# Altium schematic symbol library mcu.SchLib: 76 symbols (part 1 of 2)
Pins are listed as number, name and electrical type; pins without a type are passive.

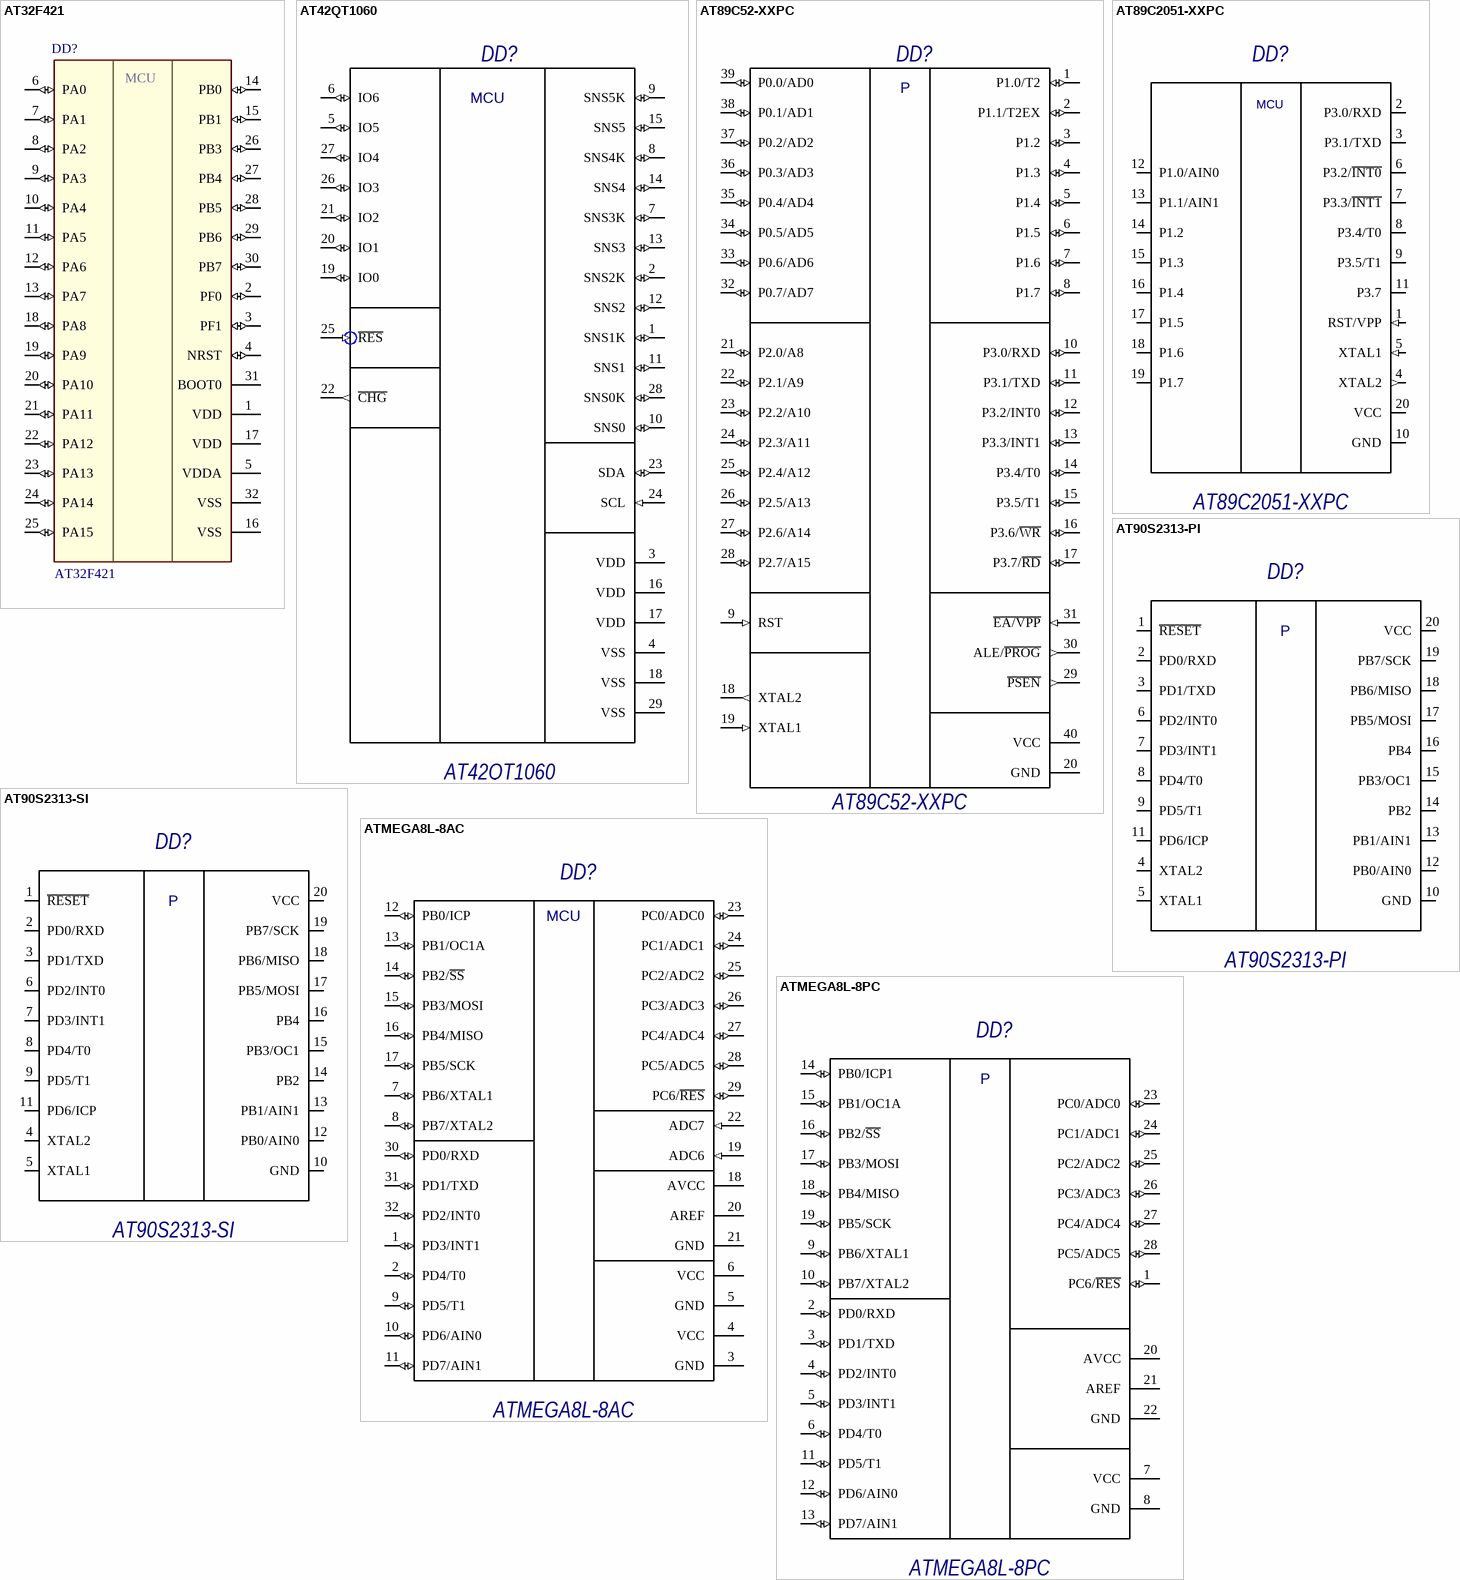
[diagram p0: symbols AT32F421 to ATMEGA8L-8PC]

## AT32F421
designator DD?
ARM® -based 32-bit Cortex® -M4 MCU with 16 KB to 64 KB Flash, / sLib, 10 timers, 1 ADC, 1 COMP, 7 communication interfaces
footprint LQFP-32
pins: 1 VDD (power) "Digital power supply", 2 PF0 (io) "I2C1_SCL, OSC_OUT", 3 PF1 (io) "I2C1_SDA, OSC_IN", 4 NRST (io) "Device reset input / internal reset output (active low)", 5 VDDA (power) "Analog power supply", 6 PA0 (io) "USART2_CTS,  USART4_TX  RTC_ TAMP2,  WKUP1, ADC_IN0,", 7 PA1 (io) "USART2_RTS,  TIM15_CH1N,  USART4_RX, EVENTOUT  ADC_IN1", 8 PA2 (io) "USART2_TX, TIM15_CH1 ADC_IN2, WKUP4", 9 PA3 (io) "USART2_RX, TIM15_CH2 ADC_IN3", 10 PA4 (io) "SPI1_NSS, TIM14_CH1,  USART2_CK,  USB_NOE(3)  ADC_IN4", 11 PA5 (io) "SPI1_SCK ADC_IN5", 12 PA6 (io) "SPI1_MISO, TIM3_CH1,  TIM1_BKIN,  TIM16_CH1, EVENTOUT,  USART3_CTS  ADC_IN6", 13 PA7 (io) "SPI1_MOSI, TIM3_CH2,  TIM14_CH1,  TIM1_CH1N, TIM17_CH1,  EVENTOUT  ADC_IN7", 14 PB0 (io) "TIM3_CH3, TIM1_CH2N,  EVENTOUT,  USART3_CK  ADC_IN8", 15 PB1 (io) "TIM3_CH4,  USART3_RTS,  TIM14_CH1, TIM1_CH3N  ADC_IN9", 16 VSS (power) "Graound", 17 VDD (power) "Digital power supply", 18 PA8 (io) "USART1_CK, TIM1_CH1,  EVENTOUT, MCO", 19 PA9 (io) "USART1_TX, TIM1_CH2,  TIM15_BKIN,  I2C1_SCL", 20 PA10 (io) "USART1_RX, TIM1_CH3,  TIM17_BKIN,  I2C1_SDA", 21 PA11 (io) "USART1_CTS,  TIM1_CH4, EVENTOUT USB_DM", 22 PA12 (io) "USART1_RTS,  TIM1_ETR, EVENTOUT USB_DP", 23 PA13 (io) "IR_OUT, SWDIO,  USB_NOE", 24 PA14 (io) "USART2_TX, SWCLK", 25 PA15 (io) "SPI1_NSS, USART2_RX,  USART4_RTS,  EVENTOUT", 26 PB3 (io) "SPI1_SCK, EVENTOUT", 27 PB4 (io) "SPI1_MISO, TIM17_BKIN,  TIM3_CH1, EVENTOUT", 28 PB5 (io) "SPI1_MOSI, I2C1_SMBA,  TIM16_BKIN,  TIM3_CH2  WKUP6", 29 PB6 (io) "I2C1_SCL, USART1_TX,  TIM16_CH1N", 30 PB7 (io) "I2C1_SDA, USART1_RX,  USART4_CTS,  TIM17_C", 31 BOOT0 "Boot memory selection", 32 VSS (power) "Ground"
text: MCU

## AT42QT1060
designator DD?
Value: *
footprint MLF-28
pins: 1 SNS1K (io), 2 SNS2K (io), 3 VDD (power), 4 VSS (power), 5 IO5 (io), 6 IO6 (io), 7 SNS3K (io), 8 SNS4K (io), 9 SNS5K (io), 10 SNS0 (io), 11 SNS1 (io), 12 SNS2 (io), 13 SNS3 (io), 14 SNS4 (io), 15 SNS5 (io), 16 VDD (power), 17 VDD (power), 18 VSS (power), 19 IO0 (io), 20 IO1 (io), 21 IO2 (io), 22 ~{CHG} (out), 23 SDA (io), 24 SCL (in), 25 ~{RES} (in), 26 IO3 (io), 27 IO4 (io), 28 SNS0K (io), 29 VSS (power)
text: MCU

## AT89C52-XXPC
designator DD?
Value: *
footprint DIP40
pins: 1 P1.0/T2 (io), 2 P1.1/T2EX (io), 3 P1.2 (io), 4 P1.3 (io), 5 P1.4 (io), 6 P1.5 (io), 7 P1.6 (io), 8 P1.7 (io), 9 RST (in), 10 P3.0/RXD (io), 11 P3.1/TXD (io), 12 P3.2/INT0 (io), 13 P3.3/INT1 (io), 14 P3.4/T0 (io), 15 P3.5/T1 (io), 16 P3.6/~{WR} (io), 17 P3.7/~{RD} (io), 18 XTAL2 (out), 19 XTAL1 (in), 20 GND (power), 21 P2.0/A8 (io), 22 P2.1/A9 (io), 23 P2.2/A10 (io), 24 P2.3/A11 (io), 25 P2.4/A12 (io), 26 P2.5/A13 (io), 27 P2.6/A14 (io), 28 P2.7/A15 (io), 29 ~{PSEN} (out), 30 ALE/~{PROG} (out), 31 ~{EA/VPP} (in), 32 P0.7/AD7 (io), 33 P0.6/AD6 (io), 34 P0.5/AD5 (io), 35 P0.4/AD4 (io), 36 P0.3/AD3 (io), 37 P0.2/AD2 (io), 38 P0.1/AD1 (io), 39 P0.0/AD0 (io), 40 VCC (power)
text: P

## AT89C2051-XXPC
designator DD?
Value: *
footprint DIP20
pins: 1 RST/VPP (in), 2 P3.0/RXD (io), 3 P3.1/TXD (io), 4 XTAL2 (out), 5 XTAL1 (in), 6 P3.2/~{INT0} (io), 7 P3.3/~{INT1} (io), 8 P3.4/T0 (io), 9 P3.5/T1 (io), 10 GND (power), 11 P3.7 (io), 12 P1.0/AIN0 (io), 13 P1.1/AIN1 (io), 14 P1.2 (io), 15 P1.3 (io), 16 P1.4 (io), 17 P1.5 (io), 18 P1.6 (io), 19 P1.7 (io), 20 VCC (power)
text: MCU

## AT90S2313-PI
designator DD?
Value: *
footprint DIP20
pins: 1 ~{RESET}, 2 PD0/RXD, 3 PD1/TXD, 4 XTAL2, 5 XTAL1, 6 PD2/INT0, 7 PD3/INT1, 8 PD4/T0, 9 PD5/T1, 10 GND, 11 PD6/ICP, 12 PB0/AIN0, 13 PB1/AIN1, 14 PB2, 15 PB3/OC1, 16 PB4, 17 PB5/MOSI, 18 PB6/MISO, 19 PB7/SCK, 20 VCC
text: P

## AT90S2313-SI
designator DD?
Value: *
footprint SOIC20
pins: 1 ~{RESET}, 2 PD0/RXD, 3 PD1/TXD, 4 XTAL2, 5 XTAL1, 6 PD2/INT0, 7 PD3/INT1, 8 PD4/T0, 9 PD5/T1, 10 GND, 11 PD6/ICP, 12 PB0/AIN0, 13 PB1/AIN1, 14 PB2, 15 PB3/OC1, 16 PB4, 17 PB5/MOSI, 18 PB6/MISO, 19 PB7/SCK, 20 VCC
text: P

## ATMEGA8L-8AC
designator DD?
Value: *
footprint TQFP-32
pins: 1 PD3/INT1 (io), 2 PD4/T0 (io), 3 GND (power), 4 VCC (power), 5 GND (power), 6 VCC (power), 7 PB6/XTAL1 (io), 8 PB7/XTAL2 (io), 9 PD5/T1 (io), 10 PD6/AIN0 (io), 11 PD7/AIN1 (io), 12 PB0/ICP (io), 13 PB1/OC1A (io), 14 PB2/~{SS} (io), 15 PB3/MOSI (io), 16 PB4/MISO (io), 17 PB5/SCK (io), 18 AVCC (power), 19 ADC6 (in), 20 AREF (power), 21 GND (power), 22 ADC7 (in), 23 PC0/ADC0 (io), 24 PC1/ADC1 (io), 25 PC2/ADC2 (io), 26 PC3/ADC3 (io), 27 PC4/ADC4 (io), 28 PC5/ADC5 (io), 29 PC6/~{RES} (io), 30 PD0/RXD (io), 31 PD1/TXD (io), 32 PD2/INT0 (io)
text: MCU

## ATMEGA8L-8PC
designator DD?
Value: *
footprint DIP28
pins: 1 PC6/~{RES} (io), 2 PD0/RXD (io), 3 PD1/TXD (io), 4 PD2/INT0 (io), 5 PD3/INT1 (io), 6 PD4/T0 (io), 7 VCC (power), 8 GND (power), 9 PB6/XTAL1 (io), 10 PB7/XTAL2 (io), 11 PD5/T1 (io), 12 PD6/AIN0 (io), 13 PD7/AIN1 (io), 14 PB0/ICP1 (io), 15 PB1/OC1A (io), 16 PB2/~{SS} (io), 17 PB3/MOSI (io), 18 PB4/MISO (io), 19 PB5/SCK (io), 20 AVCC (power), 21 AREF (power), 22 GND (power), 23 PC0/ADC0 (io), 24 PC1/ADC1 (io), 25 PC2/ADC2 (io), 26 PC3/ADC3 (io), 27 PC4/ADC4 (io), 28 PC5/ADC5 (io)
text: P

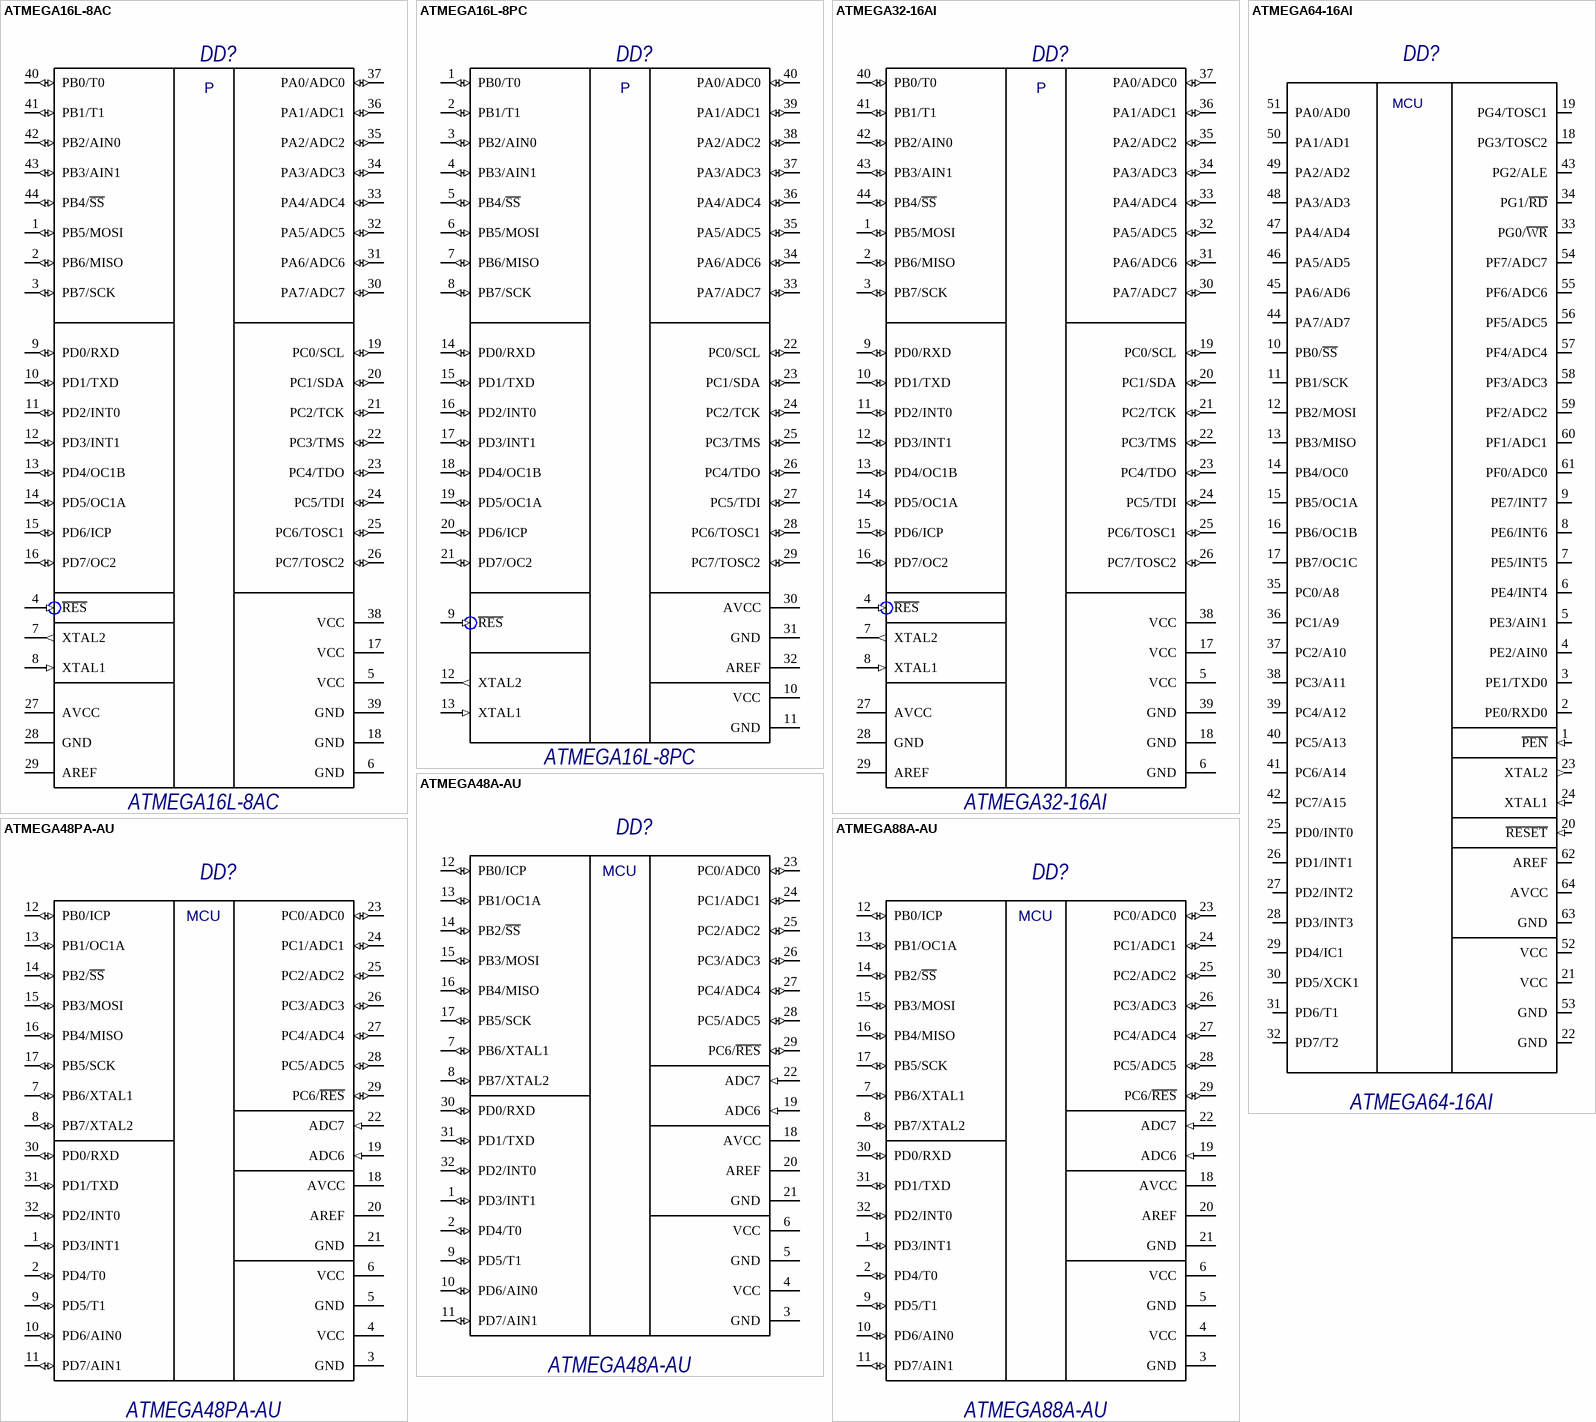
[diagram p1: symbols ATMEGA16L-8AC to ATMEGA88A-AU]

## ATMEGA16L-8AC
designator DD?
Value: *
footprint TQFP-44
pins: 1 PB5/MOSI (io), 2 PB6/MISO (io), 3 PB7/SCK (io), 4 ~{RES} (in), 5 VCC (power), 6 GND (power), 7 XTAL2 (out), 8 XTAL1 (in), 9 PD0/RXD (io), 10 PD1/TXD (io), 11 PD2/INT0 (io), 12 PD3/INT1 (io), 13 PD4/OC1B (io), 14 PD5/OC1A (io), 15 PD6/ICP (io), 16 PD7/OC2 (io), 17 VCC (power), 18 GND (power), 19 PC0/SCL (io), 20 PC1/SDA (io), 21 PC2/TCK (io), 22 PC3/TMS (io), 23 PC4/TDO (io), 24 PC5/TDI (io), 25 PC6/TOSC1 (io), 26 PC7/TOSC2 (io), 27 AVCC (power), 28 GND (power), 29 AREF (power), 30 PA7/ADC7 (io), 31 PA6/ADC6 (io), 32 PA5/ADC5 (io), 33 PA4/ADC4 (io), 34 PA3/ADC3 (io), 35 PA2/ADC2 (io), 36 PA1/ADC1 (io), 37 PA0/ADC0 (io), 38 VCC (power), 39 GND (power), 40 PB0/T0 (io), 41 PB1/T1 (io), 42 PB2/AIN0 (io), 43 PB3/AIN1 (io), 44 PB4/~{SS} (io)
text: P

## ATMEGA16L-8PC
designator DD?
Value: *
footprint DIP40
pins: 1 PB0/T0 (io), 2 PB1/T1 (io), 3 PB2/AIN0 (io), 4 PB3/AIN1 (io), 5 PB4/~{SS} (io), 6 PB5/MOSI (io), 7 PB6/MISO (io), 8 PB7/SCK (io), 9 ~{RES} (in), 10 VCC (power), 11 GND (power), 12 XTAL2 (out), 13 XTAL1 (in), 14 PD0/RXD (io), 15 PD1/TXD (io), 16 PD2/INT0 (io), 17 PD3/INT1 (io), 18 PD4/OC1B (io), 19 PD5/OC1A (io), 20 PD6/ICP (io), 21 PD7/OC2 (io), 22 PC0/SCL (io), 23 PC1/SDA (io), 24 PC2/TCK (io), 25 PC3/TMS (io), 26 PC4/TDO (io), 27 PC5/TDI (io), 28 PC6/TOSC1 (io), 29 PC7/TOSC2 (io), 30 AVCC (power), 31 GND (power), 32 AREF (power), 33 PA7/ADC7 (io), 34 PA6/ADC6 (io), 35 PA5/ADC5 (io), 36 PA4/ADC4 (io), 37 PA3/ADC3 (io), 38 PA2/ADC2 (io), 39 PA1/ADC1 (io), 40 PA0/ADC0 (io)
text: P

## ATMEGA32-16AI
designator DD?
Value: *
footprint TQFP-44
pins: 1 PB5/MOSI (io), 2 PB6/MISO (io), 3 PB7/SCK (io), 4 ~{RES} (in), 5 VCC (power), 6 GND (power), 7 XTAL2 (out), 8 XTAL1 (in), 9 PD0/RXD (io), 10 PD1/TXD (io), 11 PD2/INT0 (io), 12 PD3/INT1 (io), 13 PD4/OC1B (io), 14 PD5/OC1A (io), 15 PD6/ICP (io), 16 PD7/OC2 (io), 17 VCC (power), 18 GND (power), 19 PC0/SCL (io), 20 PC1/SDA (io), 21 PC2/TCK (io), 22 PC3/TMS (io), 23 PC4/TDO (io), 24 PC5/TDI (io), 25 PC6/TOSC1 (io), 26 PC7/TOSC2 (io), 27 AVCC (power), 28 GND (power), 29 AREF (power), 30 PA7/ADC7 (io), 31 PA6/ADC6 (io), 32 PA5/ADC5 (io), 33 PA4/ADC4 (io), 34 PA3/ADC3 (io), 35 PA2/ADC2 (io), 36 PA1/ADC1 (io), 37 PA0/ADC0 (io), 38 VCC (power), 39 GND (power), 40 PB0/T0 (io), 41 PB1/T1 (io), 42 PB2/AIN0 (io), 43 PB3/AIN1 (io), 44 PB4/~{SS} (io)
text: P

## ATMEGA48A-AU
designator DD?
Value: *
footprint TQFP-32
pins: 1 PD3/INT1 (io), 2 PD4/T0 (io), 3 GND (power), 4 VCC (power), 5 GND (power), 6 VCC (power), 7 PB6/XTAL1 (io), 8 PB7/XTAL2 (io), 9 PD5/T1 (io), 10 PD6/AIN0 (io), 11 PD7/AIN1 (io), 12 PB0/ICP (io), 13 PB1/OC1A (io), 14 PB2/~{SS} (io), 15 PB3/MOSI (io), 16 PB4/MISO (io), 17 PB5/SCK (io), 18 AVCC (power), 19 ADC6 (in), 20 AREF (power), 21 GND (power), 22 ADC7 (in), 23 PC0/ADC0 (io), 24 PC1/ADC1 (io), 25 PC2/ADC2 (io), 26 PC3/ADC3 (io), 27 PC4/ADC4 (io), 28 PC5/ADC5 (io), 29 PC6/~{RES} (io), 30 PD0/RXD (io), 31 PD1/TXD (io), 32 PD2/INT0 (io)
text: MCU

## ATMEGA48PA-AU
designator DD?
Value: *
footprint TQFP-32
pins: 1 PD3/INT1 (io), 2 PD4/T0 (io), 3 GND (power), 4 VCC (power), 5 GND (power), 6 VCC (power), 7 PB6/XTAL1 (io), 8 PB7/XTAL2 (io), 9 PD5/T1 (io), 10 PD6/AIN0 (io), 11 PD7/AIN1 (io), 12 PB0/ICP (io), 13 PB1/OC1A (io), 14 PB2/~{SS} (io), 15 PB3/MOSI (io), 16 PB4/MISO (io), 17 PB5/SCK (io), 18 AVCC (power), 19 ADC6 (in), 20 AREF (power), 21 GND (power), 22 ADC7 (in), 23 PC0/ADC0 (io), 24 PC1/ADC1 (io), 25 PC2/ADC2 (io), 26 PC3/ADC3 (io), 27 PC4/ADC4 (io), 28 PC5/ADC5 (io), 29 PC6/~{RES} (io), 30 PD0/RXD (io), 31 PD1/TXD (io), 32 PD2/INT0 (io)
text: MCU

## ATMEGA64-16AI
designator DD?
Value: *
footprint TQFP-64
pins: 1 ~{PEN} (in), 2 PE0/RXD0 (io), 3 PE1/TXD0 (io), 4 PE2/AIN0 (io), 5 PE3/AIN1 (io), 6 PE4/INT4 (io), 7 PE5/INT5 (io), 8 PE6/INT6 (io), 9 PE7/INT7 (io), 10 PB0/~{SS} (io), 11 PB1/SCK (io), 12 PB2/MOSI (io), 13 PB3/MISO (io), 14 PB4/OC0 (io), 15 PB5/OC1A (io), 16 PB6/OC1B (io), 17 PB7/OC1C (io), 18 PG3/TOSC2 (io), 19 PG4/TOSC1 (io), 20 ~{RESET} (in), 21 VCC (power), 22 GND (power), 23 XTAL2 (out), 24 XTAL1 (in), 25 PD0/INT0 (io), 26 PD1/INT1 (io), 27 PD2/INT2 (io), 28 PD3/INT3 (io), 29 PD4/IC1 (io), 30 PD5/XCK1 (io), 31 PD6/T1 (io), 32 PD7/T2 (io), 33 PG0/~{WR} (io), 34 PG1/~{RD} (io), 35 PC0/A8 (io), 36 PC1/A9 (io), 37 PC2/A10 (io), 38 PC3/A11 (io), 39 PC4/A12 (io), 40 PC5/A13 (io), 41 PC6/A14 (io), 42 PC7/A15 (io), 43 PG2/ALE (io), 44 PA7/AD7 (io), 45 PA6/AD6 (io), 46 PA5/AD5 (io), 47 PA4/AD4 (io), 48 PA3/AD3 (io), 49 PA2/AD2 (io), 50 PA1/AD1 (io), 51 PA0/AD0 (io), 52 VCC (power), 53 GND (power), 54 PF7/ADC7 (io), 55 PF6/ADC6 (io), 56 PF5/ADC5 (io), 57 PF4/ADC4 (io), 58 PF3/ADC3 (io), 59 PF2/ADC2 (io), 60 PF1/ADC1 (io), 61 PF0/ADC0 (io), 62 AREF (power), 63 GND (power), 64 AVCC (power)
text: MCU

## ATMEGA88A-AU
designator DD?
Value: *
footprint TQFP-32
pins: 1 PD3/INT1 (io), 2 PD4/T0 (io), 3 GND (power), 4 VCC (power), 5 GND (power), 6 VCC (power), 7 PB6/XTAL1 (io), 8 PB7/XTAL2 (io), 9 PD5/T1 (io), 10 PD6/AIN0 (io), 11 PD7/AIN1 (io), 12 PB0/ICP (io), 13 PB1/OC1A (io), 14 PB2/~{SS} (io), 15 PB3/MOSI (io), 16 PB4/MISO (io), 17 PB5/SCK (io), 18 AVCC (power), 19 ADC6 (in), 20 AREF (power), 21 GND (power), 22 ADC7 (in), 23 PC0/ADC0 (io), 24 PC1/ADC1 (io), 25 PC2/ADC2 (io), 26 PC3/ADC3 (io), 27 PC4/ADC4 (io), 28 PC5/ADC5 (io), 29 PC6/~{RES} (io), 30 PD0/RXD (io), 31 PD1/TXD (io), 32 PD2/INT0 (io)
text: MCU

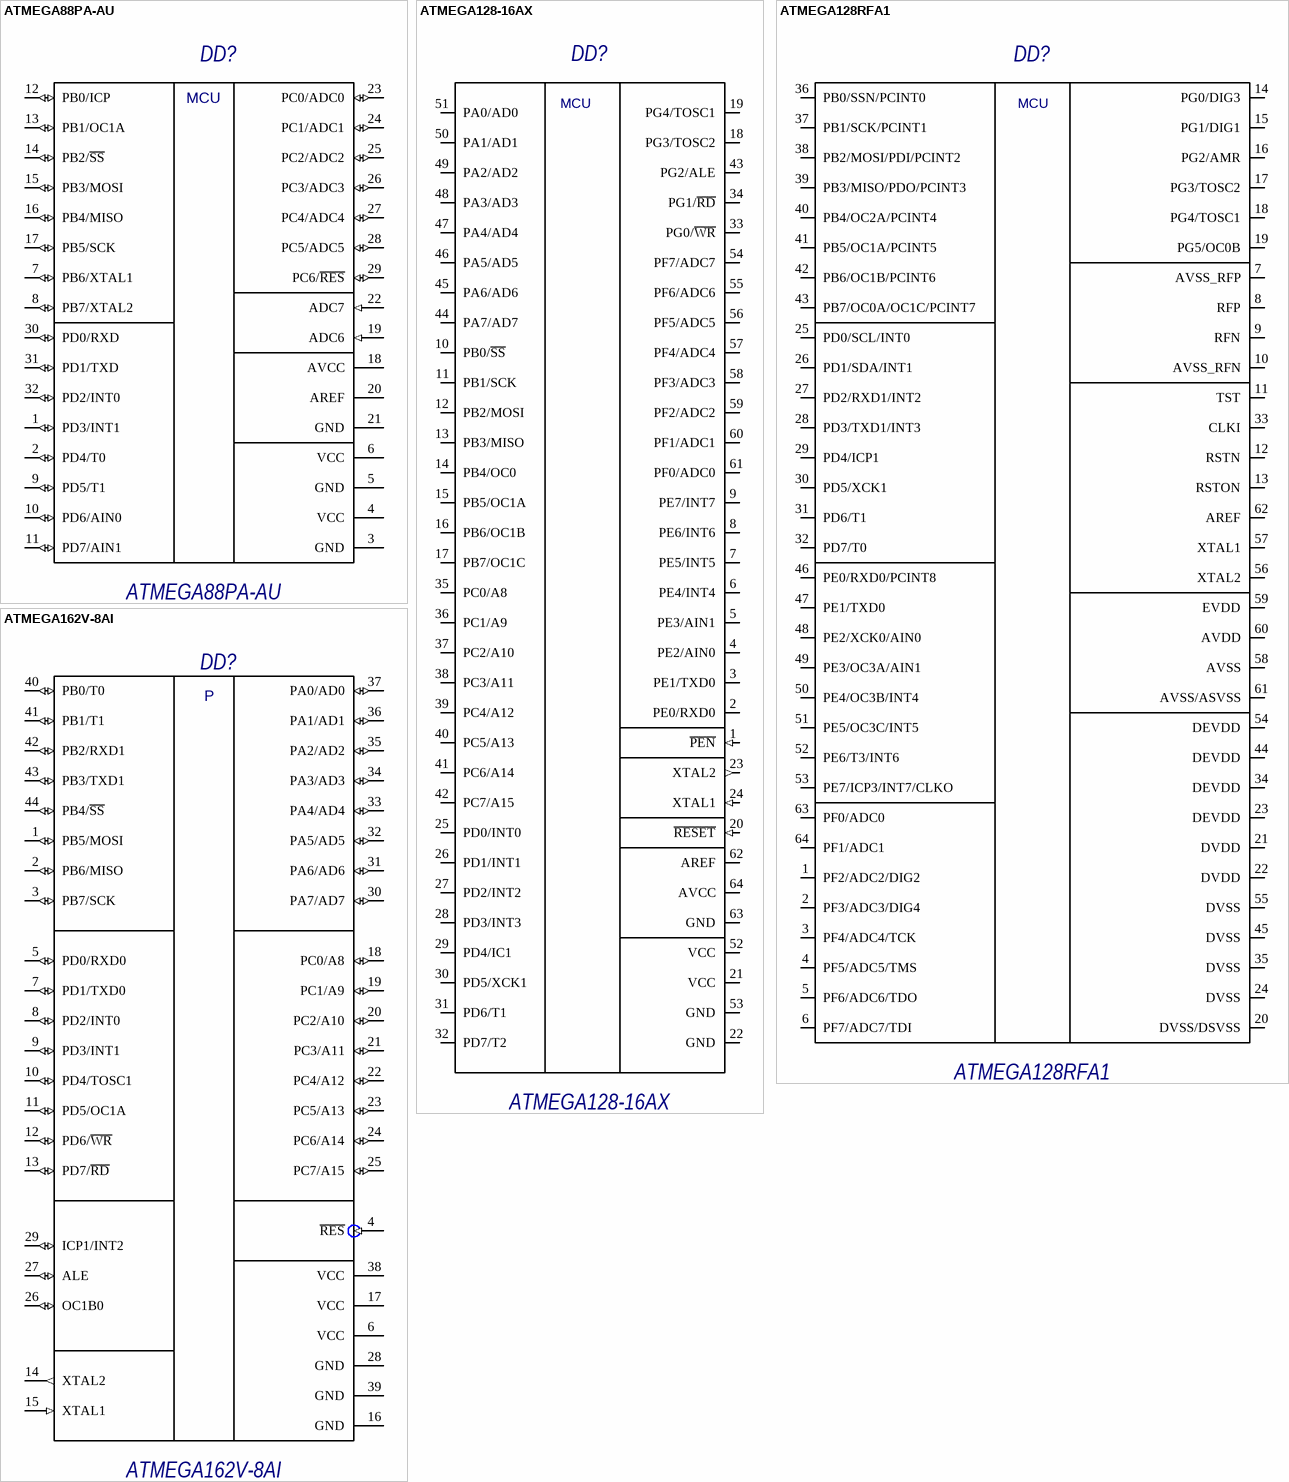
[diagram p2: symbols ATMEGA88PA-AU to ATMEGA162V-8AI]

## ATMEGA88PA-AU
designator DD?
Value: *
footprint TQFP-32
pins: 1 PD3/INT1 (io), 2 PD4/T0 (io), 3 GND (power), 4 VCC (power), 5 GND (power), 6 VCC (power), 7 PB6/XTAL1 (io), 8 PB7/XTAL2 (io), 9 PD5/T1 (io), 10 PD6/AIN0 (io), 11 PD7/AIN1 (io), 12 PB0/ICP (io), 13 PB1/OC1A (io), 14 PB2/~{SS} (io), 15 PB3/MOSI (io), 16 PB4/MISO (io), 17 PB5/SCK (io), 18 AVCC (power), 19 ADC6 (in), 20 AREF (power), 21 GND (power), 22 ADC7 (in), 23 PC0/ADC0 (io), 24 PC1/ADC1 (io), 25 PC2/ADC2 (io), 26 PC3/ADC3 (io), 27 PC4/ADC4 (io), 28 PC5/ADC5 (io), 29 PC6/~{RES} (io), 30 PD0/RXD (io), 31 PD1/TXD (io), 32 PD2/INT0 (io)
text: MCU

## ATMEGA128-16AX
designator DD?
Value: *
footprint TQFP-64
pins: 1 ~{PEN} (in), 2 PE0/RXD0 (io), 3 PE1/TXD0 (io), 4 PE2/AIN0 (io), 5 PE3/AIN1 (io), 6 PE4/INT4 (io), 7 PE5/INT5 (io), 8 PE6/INT6 (io), 9 PE7/INT7 (io), 10 PB0/~{SS} (io), 11 PB1/SCK (io), 12 PB2/MOSI (io), 13 PB3/MISO (io), 14 PB4/OC0 (io), 15 PB5/OC1A (io), 16 PB6/OC1B (io), 17 PB7/OC1C (io), 18 PG3/TOSC2 (io), 19 PG4/TOSC1 (io), 20 ~{RESET} (in), 21 VCC (power), 22 GND (power), 23 XTAL2 (out), 24 XTAL1 (in), 25 PD0/INT0 (io), 26 PD1/INT1 (io), 27 PD2/INT2 (io), 28 PD3/INT3 (io), 29 PD4/IC1 (io), 30 PD5/XCK1 (io), 31 PD6/T1 (io), 32 PD7/T2 (io), 33 PG0/~{WR} (io), 34 PG1/~{RD} (io), 35 PC0/A8 (io), 36 PC1/A9 (io), 37 PC2/A10 (io), 38 PC3/A11 (io), 39 PC4/A12 (io), 40 PC5/A13 (io), 41 PC6/A14 (io), 42 PC7/A15 (io), 43 PG2/ALE (io), 44 PA7/AD7 (io), 45 PA6/AD6 (io), 46 PA5/AD5 (io), 47 PA4/AD4 (io), 48 PA3/AD3 (io), 49 PA2/AD2 (io), 50 PA1/AD1 (io), 51 PA0/AD0 (io), 52 VCC (power), 53 GND (power), 54 PF7/ADC7 (io), 55 PF6/ADC6 (io), 56 PF5/ADC5 (io), 57 PF4/ADC4 (io), 58 PF3/ADC3 (io), 59 PF2/ADC2 (io), 60 PF1/ADC1 (io), 61 PF0/ADC0 (io), 62 AREF (power), 63 GND (power), 64 AVCC (power)
text: MCU

## ATMEGA128RFA1
designator DD?
Value: *
footprint QFN-64 (PI)
pins: 1 PF2/ADC2/DIG2, 2 PF3/ADC3/DIG4, 3 PF4/ADC4/TCK, 4 PF5/ADC5/TMS, 5 PF6/ADC6/TDO, 6 PF7/ADC7/TDI, 7 AVSS_RFP, 8 RFP, 9 RFN, 10 AVSS_RFN, 11 TST, 12 RSTN, 13 RSTON, 14 PG0/DIG3, 15 PG1/DIG1, 16 PG2/AMR, 17 PG3/TOSC2, 18 PG4/TOSC1, 19 PG5/OC0B, 20 DVSS/DSVSS (power), 21 DVDD (power), 22 DVDD (power), 23 DEVDD (power), 24 DVSS (power), 25 PD0/SCL/INT0, 26 PD1/SDA/INT1, 27 PD2/RXD1/INT2, 28 PD3/TXD1/INT3, 29 PD4/ICP1, 30 PD5/XCK1, 31 PD6/T1, 32 PD7/T0, 33 CLKI, 34 DEVDD (power), 35 DVSS (power), 36 PB0/SSN/PCINT0, 37 PB1/SCK/PCINT1, 38 PB2/MOSI/PDI/PCINT2, 39 PB3/MISO/PDO/PCINT3, 40 PB4/OC2A/PCINT4, 41 PB5/OC1A/PCINT5, 42 PB6/OC1B/PCINT6, 43 PB7/OC0A/OC1C/PCINT7, 44 DEVDD (power), 45 DVSS (power), 46 PE0/RXD0/PCINT8, 47 PE1/TXD0, 48 PE2/XCK0/AIN0, 49 PE3/OC3A/AIN1, 50 PE4/OC3B/INT4, 51 PE5/OC3C/INT5, 52 PE6/T3/INT6, 53 PE7/ICP3/INT7/CLKO, 54 DEVDD (power), 55 DVSS (power), 56 XTAL2, 57 XTAL1, 58 AVSS (power), 59 EVDD (power), 60 AVDD (power), 61 AVSS/ASVSS (power), 62 AREF, 63 PF0/ADC0, 64 PF1/ADC1, 65 AVSS (power) hidden
text: MCU

## ATMEGA162V-8AI
designator DD?
Value: *
footprint TQFP-44
pins: 1 PB5/MOSI (io), 2 PB6/MISO (io), 3 PB7/SCK (io), 4 ~{RES} (in), 5 PD0/RXD0 (io), 6 VCC (power), 7 PD1/TXD0 (io), 8 PD2/INT0 (io), 9 PD3/INT1 (io), 10 PD4/TOSC1 (io), 11 PD5/OC1A (io), 12 PD6/~{WR} (io), 13 PD7/~{RD} (io), 14 XTAL2 (out), 15 XTAL1 (in), 16 GND (power), 17 VCC (power), 18 PC0/A8 (io), 19 PC1/A9 (io), 20 PC2/A10 (io), 21 PC3/A11 (io), 22 PC4/A12 (io), 23 PC5/A13 (io), 24 PC6/A14 (io), 25 PC7/A15 (io), 26 OC1B0 (io), 27 ALE (io), 28 GND (power), 29 ICP1/INT2 (io), 30 PA7/AD7 (io), 31 PA6/AD6 (io), 32 PA5/AD5 (io), 33 PA4/AD4 (io), 34 PA3/AD3 (io), 35 PA2/AD2 (io), 36 PA1/AD1 (io), 37 PA0/AD0 (io), 38 VCC (power), 39 GND (power), 40 PB0/T0 (io), 41 PB1/T1 (io), 42 PB2/RXD1 (io), 43 PB3/TXD1 (io), 44 PB4/~{SS} (io)
text: P

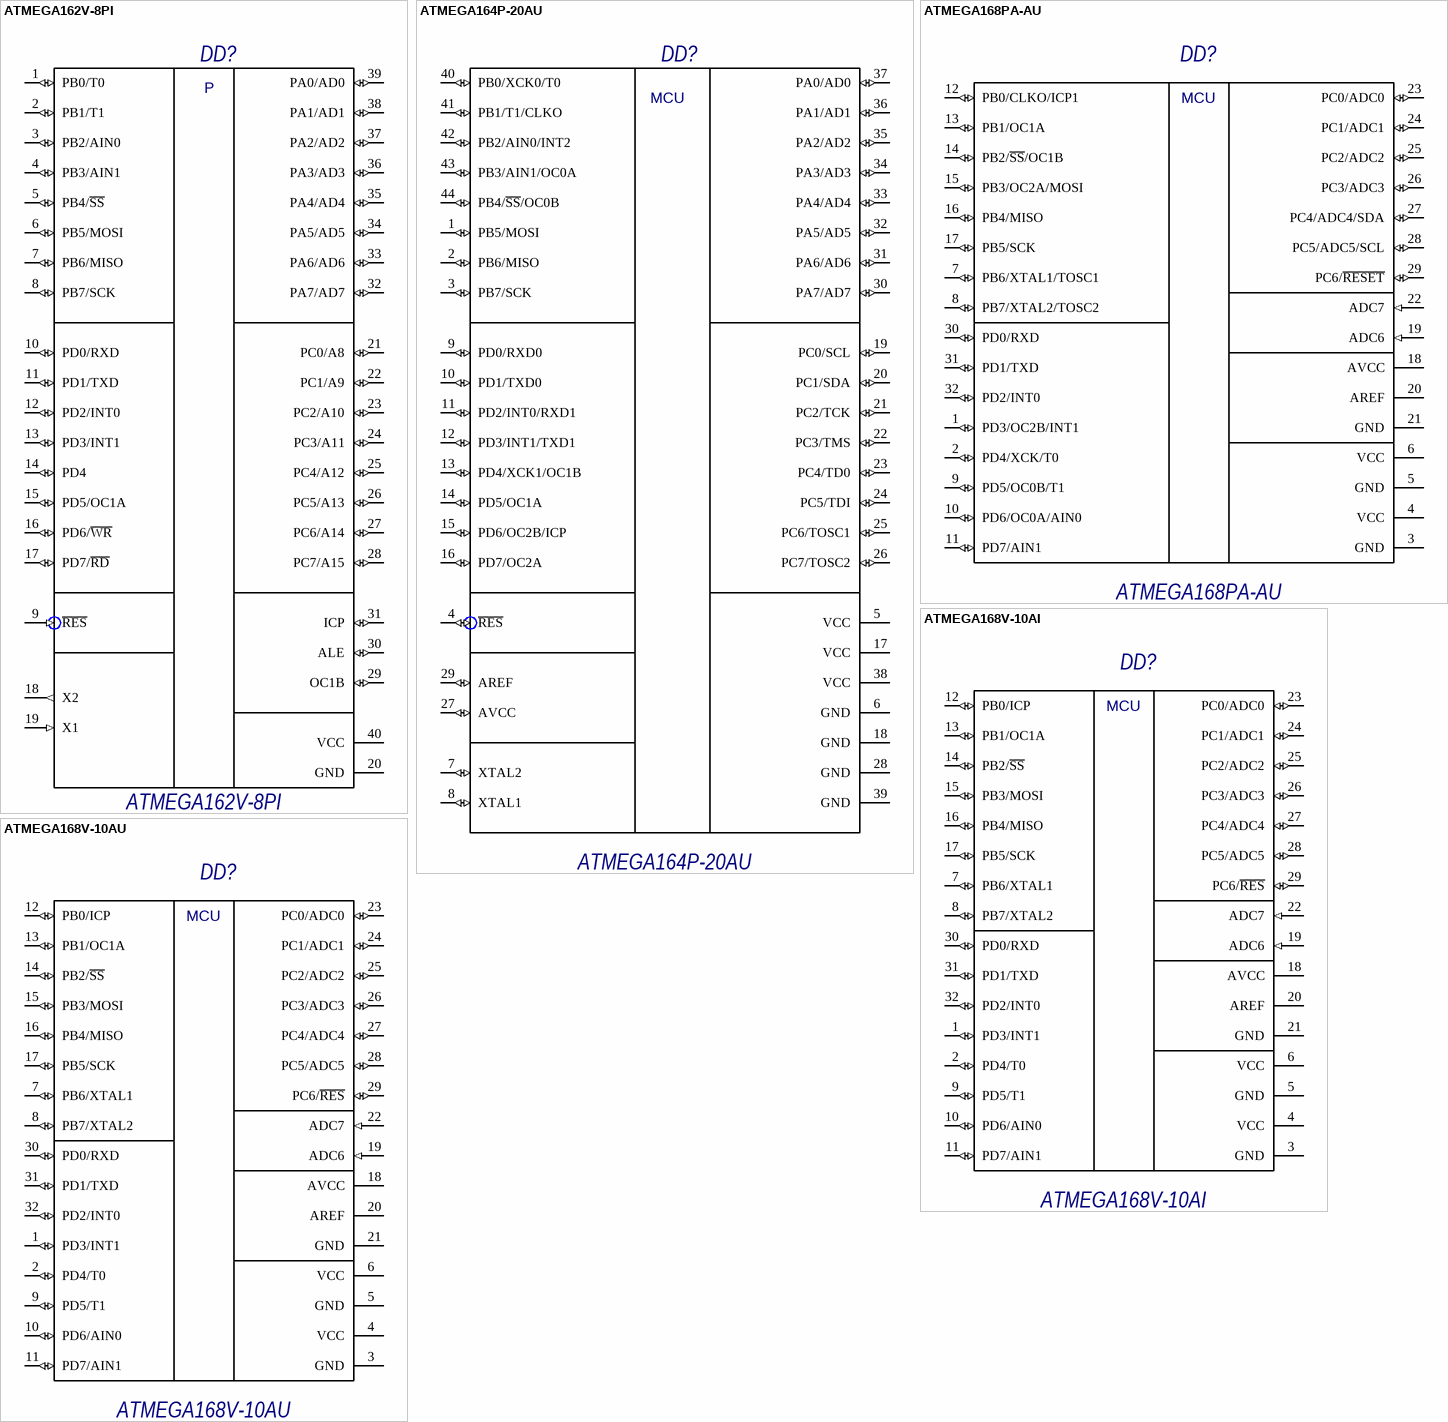
[diagram p3: symbols ATMEGA162V-8PI to ATMEGA168V-10AU]

## ATMEGA162V-8PI
designator DD?
Value: *
footprint DIP40
pins: 1 PB0/T0 (io), 2 PB1/T1 (io), 3 PB2/AIN0 (io), 4 PB3/AIN1 (io), 5 PB4/~{SS} (io), 6 PB5/MOSI (io), 7 PB6/MISO (io), 8 PB7/SCK (io), 9 ~{RES} (in), 10 PD0/RXD (io), 11 PD1/TXD (io), 12 PD2/INT0 (io), 13 PD3/INT1 (io), 14 PD4 (io), 15 PD5/OC1A (io), 16 PD6/~{WR} (io), 17 PD7/~{RD} (io), 18 X2 (out), 19 X1 (in), 20 GND (power), 21 PC0/A8 (io), 22 PC1/A9 (io), 23 PC2/A10 (io), 24 PC3/A11 (io), 25 PC4/A12 (io), 26 PC5/A13 (io), 27 PC6/A14 (io), 28 PC7/A15 (io), 29 OC1B (io), 30 ALE (io), 31 ICP (io), 32 PA7/AD7 (io), 33 PA6/AD6 (io), 34 PA5/AD5 (io), 35 PA4/AD4 (io), 36 PA3/AD3 (io), 37 PA2/AD2 (io), 38 PA1/AD1 (io), 39 PA0/AD0 (io), 40 VCC (power)
text: P

## ATMEGA164P-20AU
designator DD?
Value: *
footprint TQFP-44
pins: 1 PB5/MOSI (io), 2 PB6/MISO (io), 3 PB7/SCK (io), 4 ~{RES} (io), 5 VCC (power), 6 GND (power), 7 XTAL2 (io), 8 XTAL1 (io), 9 PD0/RXD0 (io), 10 PD1/TXD0 (io), 11 PD2/INT0/RXD1 (io), 12 PD3/INT1/TXD1 (io), 13 PD4/XCK1/OC1B (io), 14 PD5/OC1A (io), 15 PD6/OC2B/ICP (io), 16 PD7/OC2A (io), 17 VCC (power), 18 GND (power), 19 PC0/SCL (io), 20 PC1/SDA (io), 21 PC2/TCK (io), 22 PC3/TMS (io), 23 PC4/TD0 (io), 24 PC5/TDI (io), 25 PC6/TOSC1 (io), 26 PC7/TOSC2 (io), 27 AVCC (io), 28 GND (power), 29 AREF (io), 30 PA7/AD7 (io), 31 PA6/AD6 (io), 32 PA5/AD5 (io), 33 PA4/AD4 (io), 34 PA3/AD3 (io), 35 PA2/AD2 (io), 36 PA1/AD1 (io), 37 PA0/AD0 (io), 38 VCC (power), 39 GND (power), 40 PB0/XCK0/T0 (io), 41 PB1/T1/CLKO (io), 42 PB2/AIN0/INT2 (io), 43 PB3/AIN1/OC0A (io), 44 PB4/~{SS}/OC0B (io)
text: MCU

## ATMEGA168PA-AU
designator DD?
Value: *
footprint TQFP-32
pins: 1 PD3/OC2B/INT1 (io), 2 PD4/XCK/T0 (io), 3 GND (power), 4 VCC (power), 5 GND (power), 6 VCC (power), 7 PB6/XTAL1/TOSC1 (io), 8 PB7/XTAL2/TOSC2 (io), 9 PD5/OC0B/T1 (io), 10 PD6/OC0A/AIN0 (io), 11 PD7/AIN1 (io), 12 PB0/CLKO/ICP1 (io), 13 PB1/OC1A (io), 14 PB2/~{SS}/OC1B (io), 15 PB3/OC2A/MOSI (io), 16 PB4/MISO (io), 17 PB5/SCK (io), 18 AVCC (power), 19 ADC6 (in), 20 AREF (power), 21 GND (power), 22 ADC7 (in), 23 PC0/ADC0 (io), 24 PC1/ADC1 (io), 25 PC2/ADC2 (io), 26 PC3/ADC3 (io), 27 PC4/ADC4/SDA (io), 28 PC5/ADC5/SCL (io), 29 PC6/~{RESET} (io), 30 PD0/RXD (io), 31 PD1/TXD (io), 32 PD2/INT0 (io)
text: MCU

## ATMEGA168V-10AI
designator DD?
Value: *
footprint TQFP-32
pins: 1 PD3/INT1 (io), 2 PD4/T0 (io), 3 GND (power), 4 VCC (power), 5 GND (power), 6 VCC (power), 7 PB6/XTAL1 (io), 8 PB7/XTAL2 (io), 9 PD5/T1 (io), 10 PD6/AIN0 (io), 11 PD7/AIN1 (io), 12 PB0/ICP (io), 13 PB1/OC1A (io), 14 PB2/~{SS} (io), 15 PB3/MOSI (io), 16 PB4/MISO (io), 17 PB5/SCK (io), 18 AVCC (power), 19 ADC6 (in), 20 AREF (power), 21 GND (power), 22 ADC7 (in), 23 PC0/ADC0 (io), 24 PC1/ADC1 (io), 25 PC2/ADC2 (io), 26 PC3/ADC3 (io), 27 PC4/ADC4 (io), 28 PC5/ADC5 (io), 29 PC6/~{RES} (io), 30 PD0/RXD (io), 31 PD1/TXD (io), 32 PD2/INT0 (io)
text: MCU

## ATMEGA168V-10AU
designator DD?
Value: *
footprint TQFP-32
pins: 1 PD3/INT1 (io), 2 PD4/T0 (io), 3 GND (power), 4 VCC (power), 5 GND (power), 6 VCC (power), 7 PB6/XTAL1 (io), 8 PB7/XTAL2 (io), 9 PD5/T1 (io), 10 PD6/AIN0 (io), 11 PD7/AIN1 (io), 12 PB0/ICP (io), 13 PB1/OC1A (io), 14 PB2/~{SS} (io), 15 PB3/MOSI (io), 16 PB4/MISO (io), 17 PB5/SCK (io), 18 AVCC (power), 19 ADC6 (in), 20 AREF (power), 21 GND (power), 22 ADC7 (in), 23 PC0/ADC0 (io), 24 PC1/ADC1 (io), 25 PC2/ADC2 (io), 26 PC3/ADC3 (io), 27 PC4/ADC4 (io), 28 PC5/ADC5 (io), 29 PC6/~{RES} (io), 30 PD0/RXD (io), 31 PD1/TXD (io), 32 PD2/INT0 (io)
text: MCU

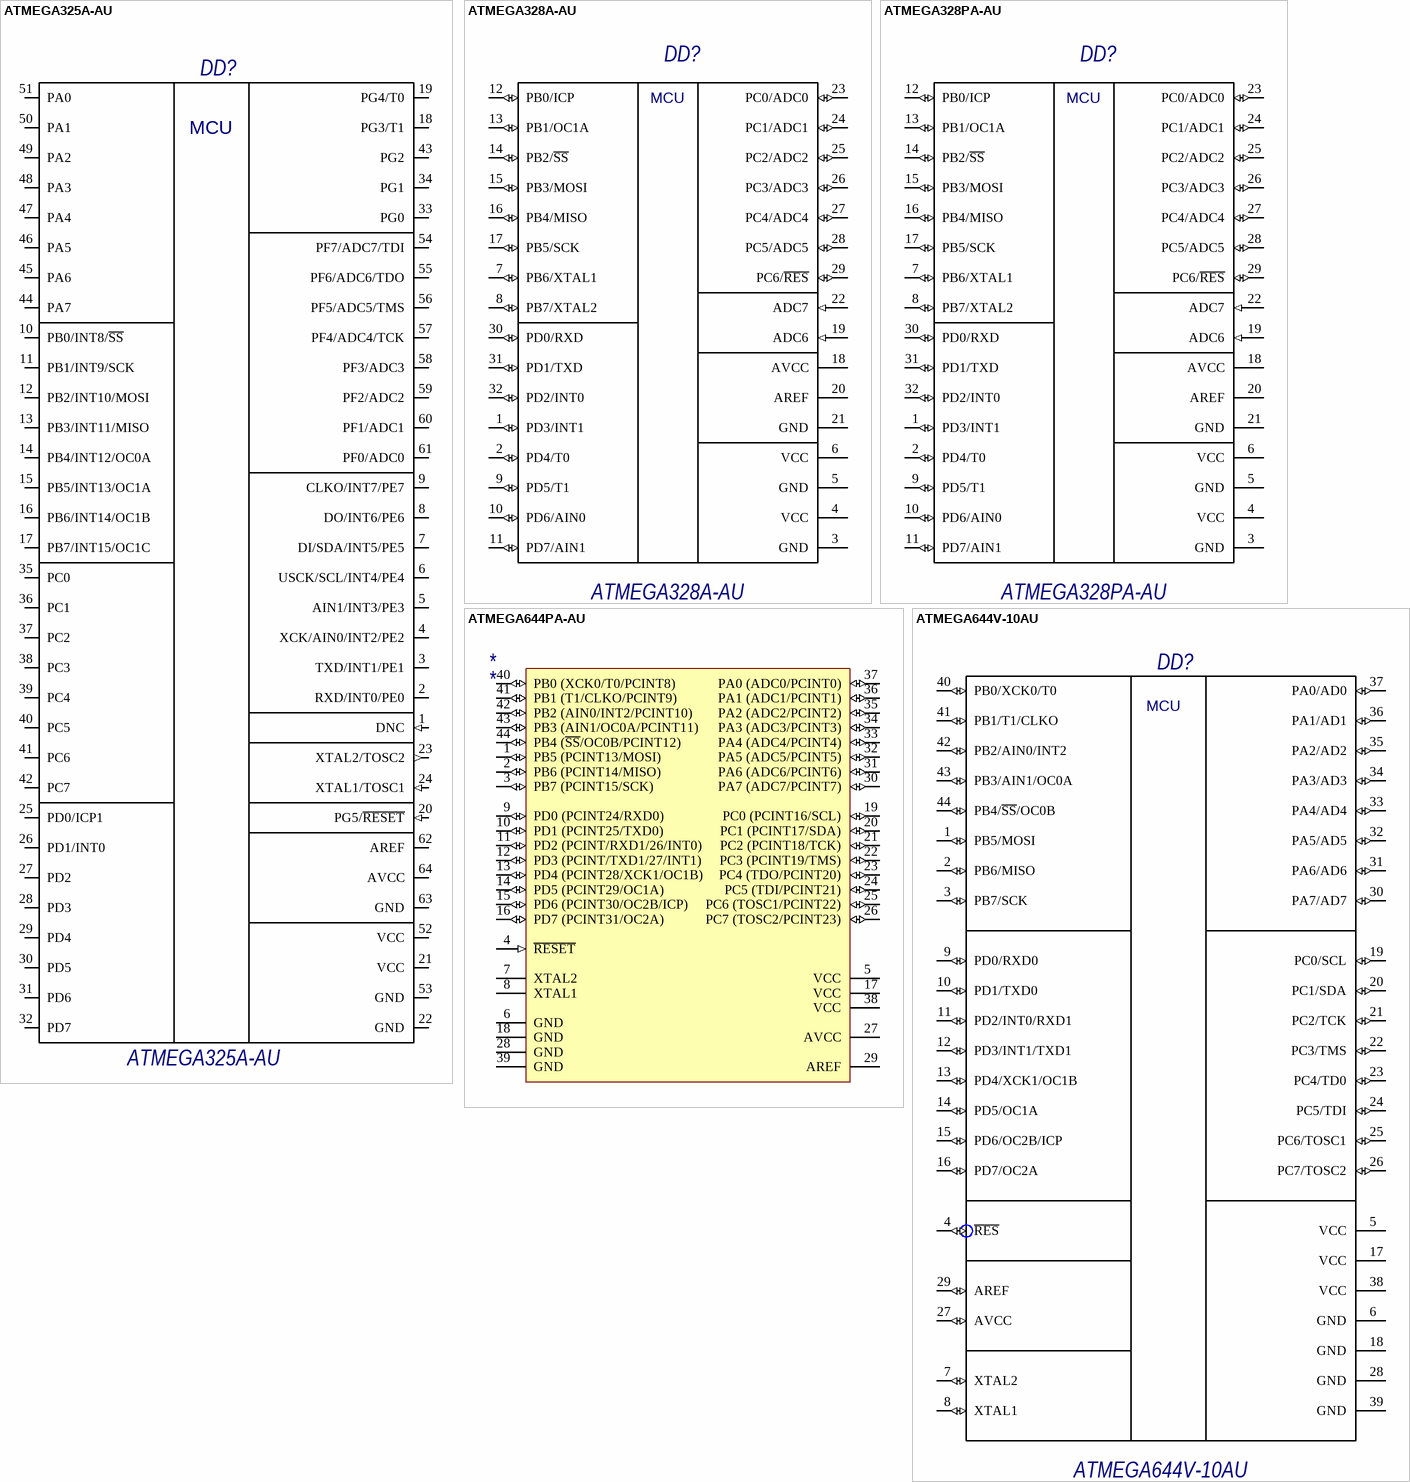
[diagram p4: symbols ATMEGA325A-AU to ATMEGA644V-10AU]

## ATMEGA325A-AU
designator DD?
Value: *
footprint TQFP-64
pins: 1 DNC (in), 2 RXD/INT0/PE0 (io), 3 TXD/INT1/PE1 (io), 4 XCK/AIN0/INT2/PE2 (io), 5 AIN1/INT3/PE3 (io), 6 USCK/SCL/INT4/PE4 (io), 7 DI/SDA/INT5/PE5 (io), 8 DO/INT6/PE6 (io), 9 CLKO/INT7/PE7 (io), 10 PB0/INT8/~{SS} (io), 11 PB1/INT9/SCK (io), 12 PB2/INT10/MOSI (io), 13 PB3/INT11/MISO (io), 14 PB4/INT12/OC0A (io), 15 PB5/INT13/OC1A (io), 16 PB6/INT14/OC1B (io), 17 PB7/INT15/OC1C (io), 18 PG3/T1 (io), 19 PG4/T0 (io), 20 PG5/~{RESET} (in), 21 VCC (power), 22 GND (power), 23 XTAL2/TOSC2 (out), 24 XTAL1/TOSC1 (in), 25 PD0/ICP1 (io), 26 PD1/INT0 (io), 27 PD2 (io), 28 PD3 (io), 29 PD4 (io), 30 PD5 (io), 31 PD6 (io), 32 PD7 (io), 33 PG0 (io), 34 PG1 (io), 35 PC0 (io), 36 PC1 (io), 37 PC2 (io), 38 PC3 (io), 39 PC4 (io), 40 PC5 (io), 41 PC6 (io), 42 PC7 (io), 43 PG2 (io), 44 PA7 (io), 45 PA6 (io), 46 PA5 (io), 47 PA4 (io), 48 PA3 (io), 49 PA2 (io), 50 PA1 (io), 51 PA0 (io), 52 VCC (power), 53 GND (power), 54 PF7/ADC7/TDI (io), 55 PF6/ADC6/TDO (io), 56 PF5/ADC5/TMS (io), 57 PF4/ADC4/TCK (io), 58 PF3/ADC3 (io), 59 PF2/ADC2 (io), 60 PF1/ADC1 (io), 61 PF0/ADC0 (io), 62 AREF (power), 63 GND (power), 64 AVCC (power)
text: MCU

## ATMEGA328A-AU
designator DD?
Value: *
footprint TQFP-32
pins: 1 PD3/INT1 (io), 2 PD4/T0 (io), 3 GND (power), 4 VCC (power), 5 GND (power), 6 VCC (power), 7 PB6/XTAL1 (io), 8 PB7/XTAL2 (io), 9 PD5/T1 (io), 10 PD6/AIN0 (io), 11 PD7/AIN1 (io), 12 PB0/ICP (io), 13 PB1/OC1A (io), 14 PB2/~{SS} (io), 15 PB3/MOSI (io), 16 PB4/MISO (io), 17 PB5/SCK (io), 18 AVCC (power), 19 ADC6 (in), 20 AREF (power), 21 GND (power), 22 ADC7 (in), 23 PC0/ADC0 (io), 24 PC1/ADC1 (io), 25 PC2/ADC2 (io), 26 PC3/ADC3 (io), 27 PC4/ADC4 (io), 28 PC5/ADC5 (io), 29 PC6/~{RES} (io), 30 PD0/RXD (io), 31 PD1/TXD (io), 32 PD2/INT0 (io)
text: MCU

## ATMEGA328PA-AU
designator DD?
Value: *
footprint TQFP-32
pins: 1 PD3/INT1 (io), 2 PD4/T0 (io), 3 GND (power), 4 VCC (power), 5 GND (power), 6 VCC (power), 7 PB6/XTAL1 (io), 8 PB7/XTAL2 (io), 9 PD5/T1 (io), 10 PD6/AIN0 (io), 11 PD7/AIN1 (io), 12 PB0/ICP (io), 13 PB1/OC1A (io), 14 PB2/~{SS} (io), 15 PB3/MOSI (io), 16 PB4/MISO (io), 17 PB5/SCK (io), 18 AVCC (power), 19 ADC6 (in), 20 AREF (power), 21 GND (power), 22 ADC7 (in), 23 PC0/ADC0 (io), 24 PC1/ADC1 (io), 25 PC2/ADC2 (io), 26 PC3/ADC3 (io), 27 PC4/ADC4 (io), 28 PC5/ADC5 (io), 29 PC6/~{RES} (io), 30 PD0/RXD (io), 31 PD1/TXD (io), 32 PD2/INT0 (io)
text: MCU

## ATMEGA644PA-AU
designator *
footprint 44A_L (Thin QFP, 44-Leads, Body 10x10mm, Pitch 0.8mm, IPC High Density)
footprint 44A_M (Thin QFP, 44-Leads, Body 10x10mm, Pitch 0.8mm, IPC Low Density)
footprint 44A_N (Thin QFP, 44-Leads, Body 10x10mm, Pitch 0.8mm, IPC Medium Density)
pins: 1 PB5 (PCINT13/MOSI) (io), 2 PB6 (PCINT14/MISO) (io), 3 PB7 (PCINT15/SCK) (io), 4 ~{RESET} (in), 5 VCC (power), 6 GND (power), 7 XTAL2, 8 XTAL1, 9 PD0 (PCINT24/RXD0) (io), 10 PD1 (PCINT25/TXD0) (io), 11 PD2 (PCINT/RXD1/26/INT0) (io), 12 PD3 (PCINT/TXD1/27/INT1) (io), 13 PD4 (PCINT28/XCK1/OC1B) (io), 14 PD5 (PCINT29/OC1A) (io), 15 PD6 (PCINT30/OC2B/ICP) (io), 16 PD7 (PCINT31/OC2A) (io), 17 VCC (power), 18 GND (power), 19 PC0 (PCINT16/SCL) (io), 20 PC1 (PCINT17/SDA) (io), 21 PC2 (PCINT18/TCK) (io), 22 PC3 (PCINT19/TMS) (io), 23 PC4 (TDO/PCINT20) (io), 24 PC5 (TDI/PCINT21) (io), 25 PC6 (TOSC1/PCINT22) (io), 26 PC7 (TOSC2/PCINT23) (io), 27 AVCC (power), 28 GND (power), 29 AREF (power), 30 PA7 (ADC7/PCINT7) (io), 31 PA6 (ADC6/PCINT6) (io), 32 PA5 (ADC5/PCINT5) (io), 33 PA4 (ADC4/PCINT4) (io), 34 PA3 (ADC3/PCINT3) (io), 35 PA2 (ADC2/PCINT2) (io), 36 PA1 (ADC1/PCINT1) (io), 37 PA0 (ADC0/PCINT0) (io), 38 VCC (power), 39 GND (power), 40 PB0 (XCK0/T0/PCINT8) (io), 41 PB1 (T1/CLKO/PCINT9) (io), 42 PB2 (AIN0/INT2/PCINT10) (io), 43 PB3 (AIN1/OC0A/PCINT11) (io), 44 PB4 (~{SS}/OC0B/PCINT12) (io)

## ATMEGA644V-10AU
designator DD?
Value: *
footprint TQFP-44
pins: 1 PB5/MOSI (io), 2 PB6/MISO (io), 3 PB7/SCK (io), 4 ~{RES} (io), 5 VCC (power), 6 GND (power), 7 XTAL2 (io), 8 XTAL1 (io), 9 PD0/RXD0 (io), 10 PD1/TXD0 (io), 11 PD2/INT0/RXD1 (io), 12 PD3/INT1/TXD1 (io), 13 PD4/XCK1/OC1B (io), 14 PD5/OC1A (io), 15 PD6/OC2B/ICP (io), 16 PD7/OC2A (io), 17 VCC (power), 18 GND (power), 19 PC0/SCL (io), 20 PC1/SDA (io), 21 PC2/TCK (io), 22 PC3/TMS (io), 23 PC4/TD0 (io), 24 PC5/TDI (io), 25 PC6/TOSC1 (io), 26 PC7/TOSC2 (io), 27 AVCC (io), 28 GND (power), 29 AREF (io), 30 PA7/AD7 (io), 31 PA6/AD6 (io), 32 PA5/AD5 (io), 33 PA4/AD4 (io), 34 PA3/AD3 (io), 35 PA2/AD2 (io), 36 PA1/AD1 (io), 37 PA0/AD0 (io), 38 VCC (power), 39 GND (power), 40 PB0/XCK0/T0 (io), 41 PB1/T1/CLKO (io), 42 PB2/AIN0/INT2 (io), 43 PB3/AIN1/OC0A (io), 44 PB4/~{SS}/OC0B (io)
text: MCU

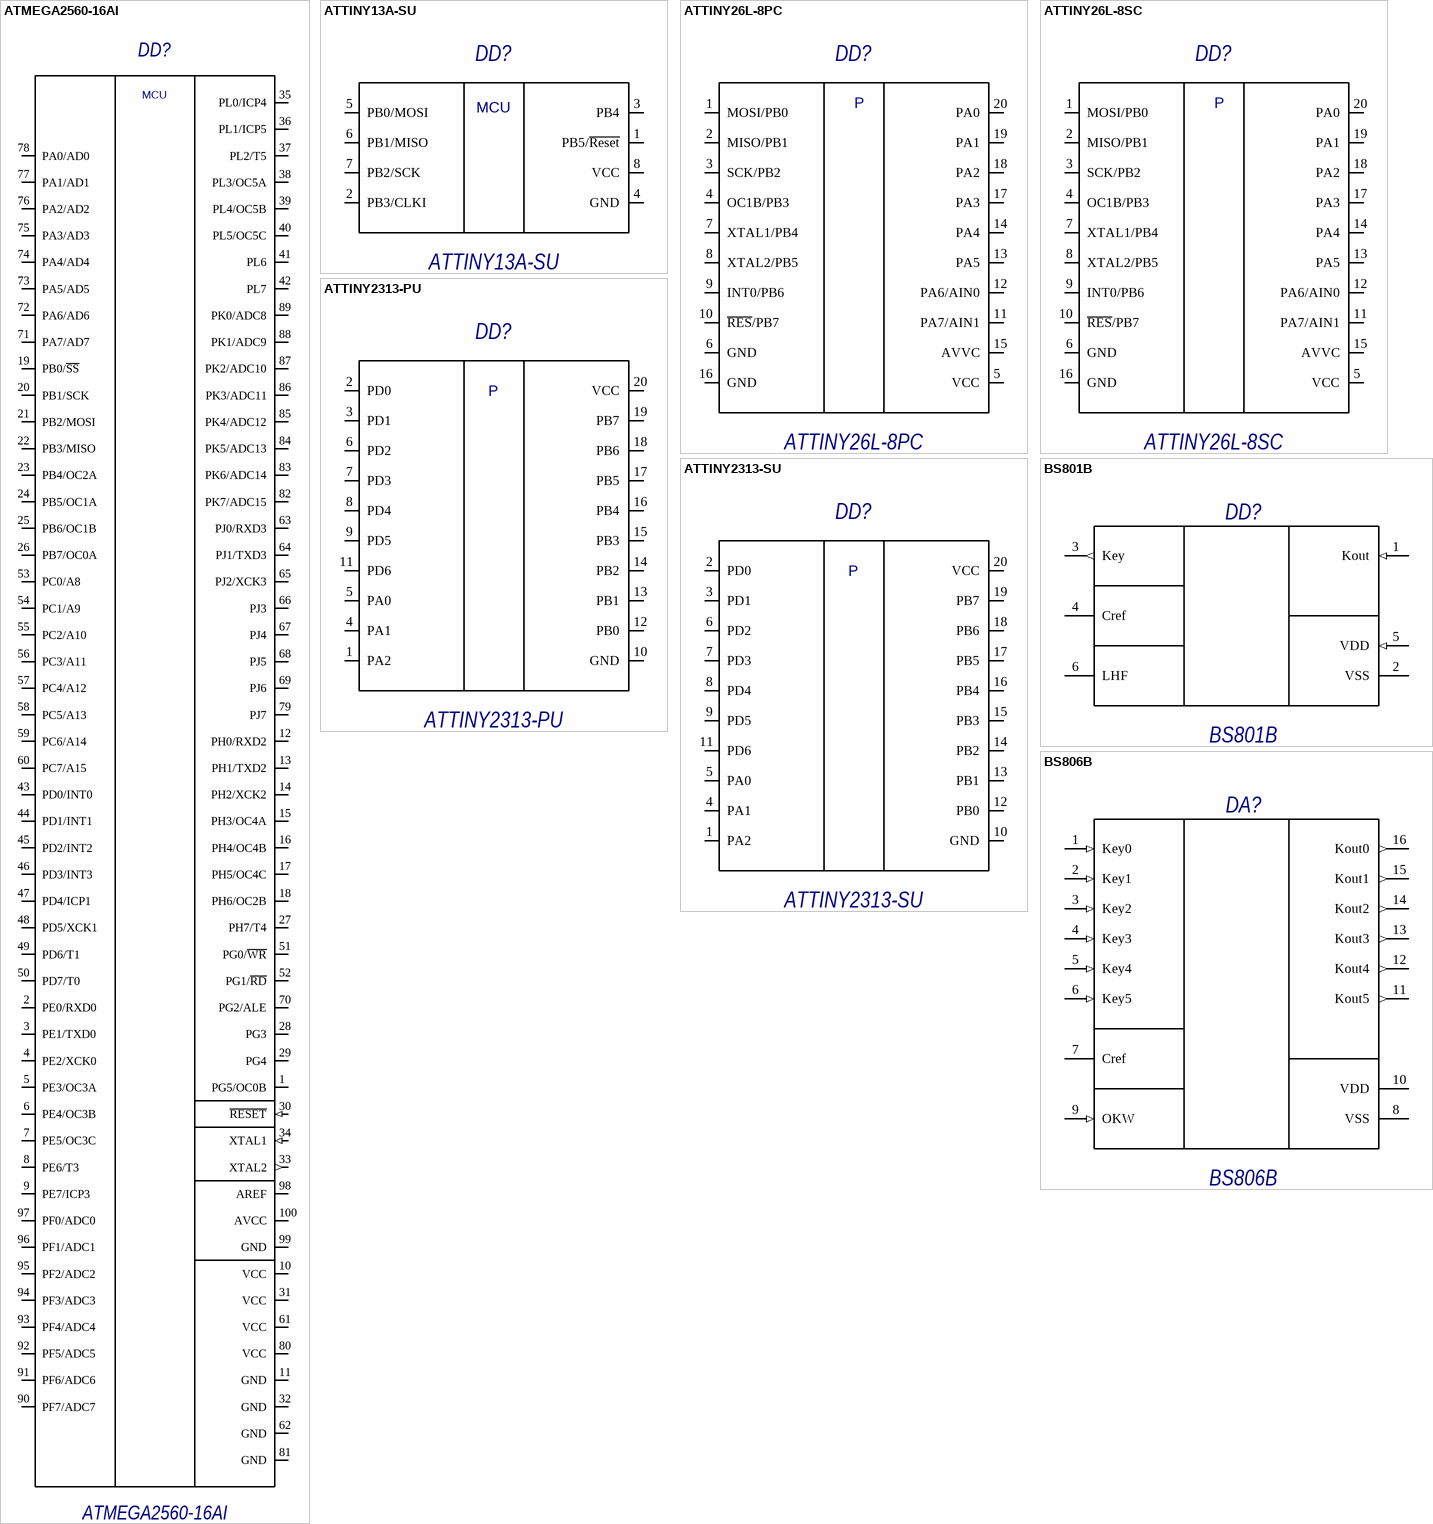
[diagram p5: symbols ATMEGA2560-16AI to BS806B]

## ATMEGA2560-16AI
designator DD?
Value: *
footprint TQFP-100
pins: 1 PG5/OC0B (io), 2 PE0/RXD0 (io), 3 PE1/TXD0 (io), 4 PE2/XCK0 (io), 5 PE3/OC3A (io), 6 PE4/OC3B (io), 7 PE5/OC3C (io), 8 PE6/T3 (io), 9 PE7/ICP3 (io), 10 VCC (power), 11 GND (power), 12 PH0/RXD2 (io), 13 PH1/TXD2 (io), 14 PH2/XCK2 (io), 15 PH3/OC4A (io), 16 PH4/OC4B (io), 17 PH5/OC4C (io), 18 PH6/OC2B (io), 19 PB0/~{SS} (io), 20 PB1/SCK (io), 21 PB2/MOSI (io), 22 PB3/MISO (io), 23 PB4/OC2A (io), 24 PB5/OC1A (io), 25 PB6/OC1B (io), 26 PB7/OC0A (io), 27 PH7/T4 (io), 28 PG3 (io), 29 PG4 (io), 30 ~{RESET} (in), 31 VCC (power), 32 GND (power), 33 XTAL2 (out), 34 XTAL1 (in), 35 PL0/ICP4 (io), 36 PL1/ICP5 (io), 37 PL2/T5 (io), 38 PL3/OC5A (io), 39 PL4/OC5B (io), 40 PL5/OC5C (io), 41 PL6 (io), 42 PL7 (io), 43 PD0/INT0 (io), 44 PD1/INT1 (io), 45 PD2/INT2 (io), 46 PD3/INT3 (io), 47 PD4/ICP1 (io), 48 PD5/XCK1 (io), 49 PD6/T1 (io), 50 PD7/T0 (io), 51 PG0/~{WR} (io), 52 PG1/~{RD} (io), 53 PC0/A8 (io), 54 PC1/A9 (io), 55 PC2/A10 (io), 56 PC3/A11 (io), 57 PC4/A12 (io), 58 PC5/A13 (io), 59 PC6/A14 (io), 60 PC7/A15 (io), 61 VCC (power), 62 GND (power), 63 PJ0/RXD3 (io), 64 PJ1/TXD3 (io), 65 PJ2/XCK3 (io), 66 PJ3 (io), 67 PJ4 (io), 68 PJ5 (io), 69 PJ6 (io), 70 PG2/ALE (io), 71 PA7/AD7 (io), 72 PA6/AD6 (io), 73 PA5/AD5 (io), 74 PA4/AD4 (io), 75 PA3/AD3 (io), 76 PA2/AD2 (io), 77 PA1/AD1 (io), 78 PA0/AD0 (io), 79 PJ7 (io), 80 VCC (power), 81 GND (power), 82 PK7/ADC15 (io), 83 PK6/ADC14 (io), 84 PK5/ADC13 (io), 85 PK4/ADC12 (io), 86 PK3/ADC11 (io), 87 PK2/ADC10 (io), 88 PK1/ADC9 (io), 89 PK0/ADC8 (io), 90 PF7/ADC7 (io), 91 PF6/ADC6 (io), 92 PF5/ADC5 (io), 93 PF4/ADC4 (io), 94 PF3/ADC3 (io), 95 PF2/ADC2 (io), 96 PF1/ADC1 (io), 97 PF0/ADC0 (io), 98 AREF (power), 99 GND (power), 100 AVCC (power)
text: MCU

## ATTINY13A-SU
designator DD?
Value: *
footprint 8S2
pins: 1 PB5/~{Reset} (io), 2 PB3/CLKI (io), 3 PB4 (io), 4 GND (power), 5 PB0/MOSI (io), 6 PB1/MISO (io), 7 PB2/SCK (io), 8 VCC (power)
text: MCU

## ATTINY26L-8PC
designator DD?
Value: *
footprint DIP20
pins: 1 MOSI/PB0 (io), 2 MISO/PB1 (io), 3 SCK/PB2 (io), 4 OC1B/PB3 (io), 5 VCC (power), 6 GND (power), 7 XTAL1/PB4 (io), 8 XTAL2/PB5 (io), 9 INT0/PB6 (io), 10 ~{RES}/PB7 (io), 11 PA7/AIN1 (io), 12 PA6/AIN0 (io), 13 PA5 (io), 14 PA4 (io), 15 AVVC (power), 16 GND (power), 17 PA3 (io), 18 PA2 (io), 19 PA1 (io), 20 PA0 (io)
text: P

## ATTINY26L-8SC
designator DD?
Value: *
footprint SOIC20
pins: 1 MOSI/PB0 (io), 2 MISO/PB1 (io), 3 SCK/PB2 (io), 4 OC1B/PB3 (io), 5 VCC (power), 6 GND (power), 7 XTAL1/PB4 (io), 8 XTAL2/PB5 (io), 9 INT0/PB6 (io), 10 ~{RES}/PB7 (io), 11 PA7/AIN1 (io), 12 PA6/AIN0 (io), 13 PA5 (io), 14 PA4 (io), 15 AVVC (power), 16 GND (power), 17 PA3 (io), 18 PA2 (io), 19 PA1 (io), 20 PA0 (io)
text: P

## ATTINY2313-PU
designator DD?
Value: *
footprint DIP20
pins: 1 PA2, 2 PD0, 3 PD1, 4 PA1, 5 PA0, 6 PD2, 7 PD3, 8 PD4, 9 PD5, 10 GND (power), 11 PD6, 12 PB0, 13 PB1, 14 PB2, 15 PB3, 16 PB4, 17 PB5, 18 PB6, 19 PB7, 20 VCC (power)
text: P

## ATTINY2313-SU
designator DD?
Value: *
footprint SOIC20
pins: 1 PA2, 2 PD0, 3 PD1, 4 PA1, 5 PA0, 6 PD2, 7 PD3, 8 PD4, 9 PD5, 10 GND (power), 11 PD6, 12 PB0, 13 PB1, 14 PB2, 15 PB3, 16 PB4, 17 PB5, 18 PB6, 19 PB7, 20 VCC (power)
text: P

## BS801B
designator DD?
Value: *
footprint SOT23-6
pins: 1 Kout (in), 2 VSS, 3 Key (out), 4 Cref (power), 5 VDD (in), 6 LHF (power)

## BS806B
designator DA?
Value: *
footprint 16-PIN NSOP
pins: 1 Key0 (in), 2 Key1 (in), 3 Key2 (in), 4 Key3 (in), 5 Key4 (in), 6 Key5 (in), 7 Cref, 8 VSS (power), 9 OKW (in), 10 VDD (power), 11 Kout5 (out), 12 Kout4 (out), 13 Kout3 (out), 14 Kout2 (out), 15 Kout1 (out), 16 Kout0 (out)

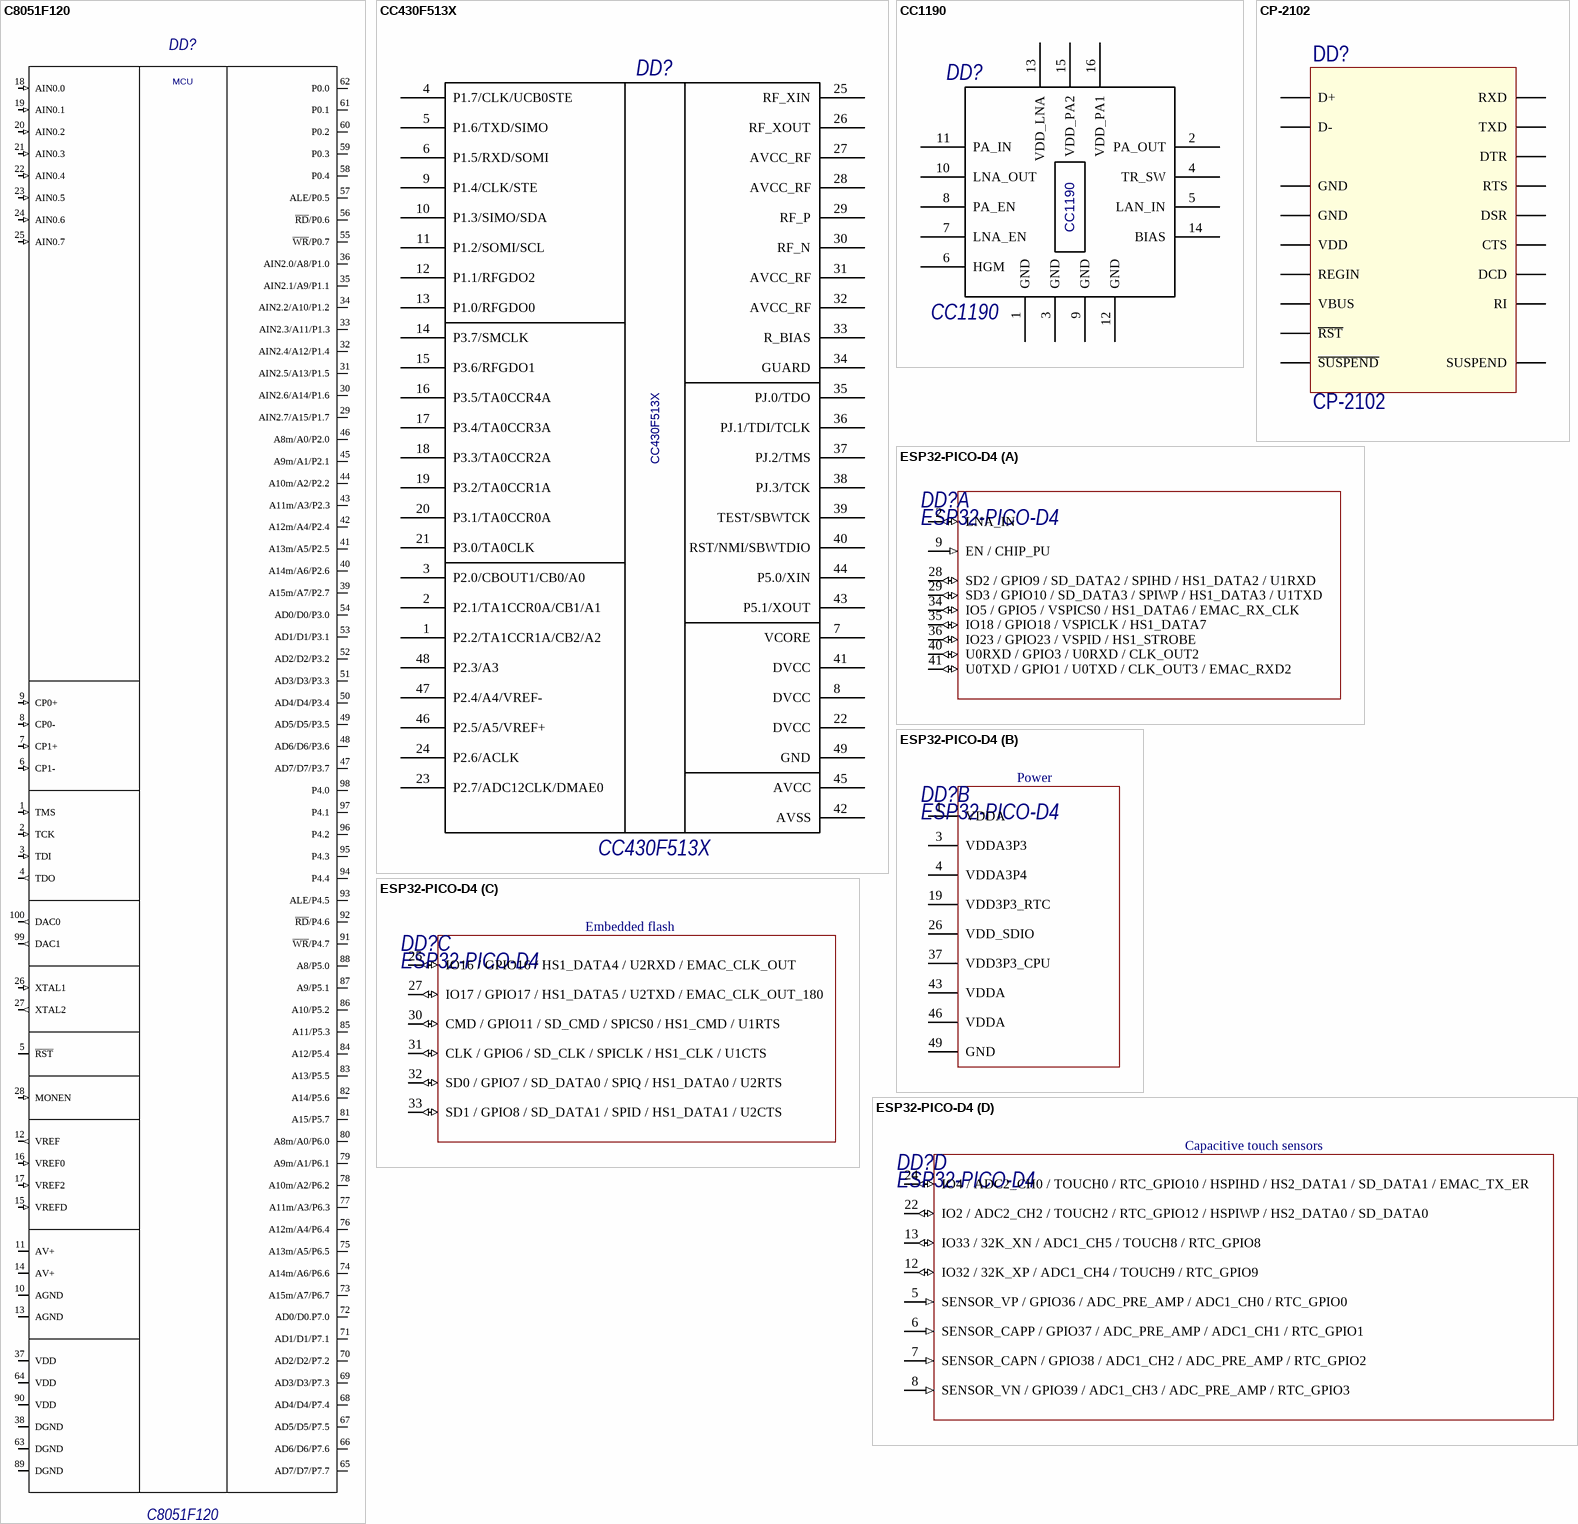
[diagram p6: symbols C8051F120 to ESP32-PICO-D4]

## C8051F120
designator DD?
Value: *
footprint TQFP-100
pins: 1 TMS (in), 2 TCK (in), 3 TDI (in), 4 TDO (out), 5 ~{RST} (io), 6 CP1- (in), 7 CP1+ (in), 8 CP0- (in), 9 CP0+ (in), 10 AGND (power), 11 AV+ (power), 12 VREF (out), 13 AGND (power), 14 AV+ (power), 15 VREFD (in), 16 VREF0 (in), 17 VREF2 (in), 18 AIN0.0 (in), 19 AIN0.1 (in), 20 AIN0.2 (in), 21 AIN0.3 (in), 22 AIN0.4 (in), 23 AIN0.5 (in), 24 AIN0.6 (in), 25 AIN0.7 (in), 26 XTAL1 (in), 27 XTAL2 (out), 28 MONEN (in), 29 AIN2.7/A15/P1.7 (io), 30 AIN2.6/A14/P1.6 (io), 31 AIN2.5/A13/P1.5 (io), 32 AIN2.4/A12/P1.4 (io), 33 AIN2.3/A11/P1.3 (io), 34 AIN2.2/A10/P1.2 (io), 35 AIN2.1/A9/P1.1 (io), 36 AIN2.0/A8/P1.0 (io), 37 VDD (power), 38 DGND (power), 39 A15m/A7/P2.7 (io), 40 A14m/A6/P2.6 (io), 41 A13m/A5/P2.5 (io), 42 A12m/A4/P2.4 (io), 43 A11m/A3/P2.3 (io), 44 A10m/A2/P2.2 (io), 45 A9m/A1/P2.1 (io), 46 A8m/A0/P2.0 (io), 47 AD7/D7/P3.7 (io), 48 AD6/D6/P3.6 (io), 49 AD5/D5/P3.5 (io), 50 AD4/D4/P3.4 (io), 51 AD3/D3/P3.3 (io), 52 AD2/D2/P3.2 (io), 53 AD1/D1/P3.1 (io), 54 AD0/D0/P3.0 (io), 55 ~{WR}/P0.7 (io), 56 ~{RD}/P0.6 (io), 57 ALE/P0.5 (io), 58 P0.4 (io), 59 P0.3 (io), 60 P0.2 (io), 61 P0.1 (io), 62 P0.0 (io), 63 DGND (power), 64 VDD (power), 65 AD7/D7/P7.7 (io), 66 AD6/D6/P7.6 (io), 67 AD5/D5/P7.5 (io), 68 AD4/D4/P7.4 (io), 69 AD3/D3/P7.3 (io), 70 AD2/D2/P7.2 (io), 71 AD1/D1/P7.1 (io), 72 AD0/D0.P7.0 (io), 73 A15m/A7/P6.7 (io), 74 A14m/A6/P6.6 (io), 75 A13m/A5/P6.5 (io), 76 A12m/A4/P6.4 (io), 77 A11m/A3/P6.3 (io), 78 A10m/A2/P6.2 (io), 79 A9m/A1/P6.1 (io), 80 A8m/A0/P6.0 (io), 81 A15/P5.7 (io), 82 A14/P5.6 (io), 83 A13/P5.5 (io), 84 A12/P5.4 (io), 85 A11/P5.3 (io), 86 A10/P5.2 (io), 87 A9/P5.1 (io), 88 A8/P5.0 (io), 89 DGND (power), 90 VDD (power), 91 ~{WR}/P4.7 (io), 92 ~{RD}/P4.6 (io), 93 ALE/P4.5 (io), 94 P4.4 (io), 95 P4.3 (io), 96 P4.2 (io), 97 P4.1 (io), 98 P4.0 (io), 99 DAC1 (out), 100 DAC0 (out)
text: MCU

## CC430F513X
designator DD?
Value: *
footprint S-PVQNFN-N48
pins: 1 P2.2/TA1CCR1A/CB2/A2, 2 P2.1/TA1CCR0A/CB1/A1, 3 P2.0/CBOUT1/CB0/A0, 4 P1.7/CLK/UCB0STE, 5 P1.6/TXD/SIMO, 6 P1.5/RXD/SOMI, 7 VCORE, 8 DVCC, 9 P1.4/CLK/STE, 10 P1.3/SIMO/SDA, 11 P1.2/SOMI/SCL, 12 P1.1/RFGDO2, 13 P1.0/RFGDO0, 14 P3.7/SMCLK, 15 P3.6/RFGDO1, 16 P3.5/TA0CCR4A, 17 P3.4/TA0CCR3A, 18 P3.3/TA0CCR2A, 19 P3.2/TA0CCR1A, 20 P3.1/TA0CCR0A, 21 P3.0/TA0CLK, 22 DVCC, 23 P2.7/ADC12CLK/DMAE0, 24 P2.6/ACLK, 25 RF_XIN, 26 RF_XOUT, 27 AVCC_RF, 28 AVCC_RF, 29 RF_P, 30 RF_N, 31 AVCC_RF, 32 AVCC_RF, 33 R_BIAS, 34 GUARD, 35 PJ.0/TDO, 36 PJ.1/TDI/TCLK, 37 PJ.2/TMS, 38 PJ.3/TCK, 39 TEST/SBWTCK, 40 RST/NMI/SBWTDIO, 41 DVCC, 42 AVSS, 43 P5.1/XOUT, 44 P5.0/XIN, 45 AVCC, 46 P2.5/A5/VREF+, 47 P2.4/A4/VREF-, 48 P2.3/A3, 49 GND

## CC1190
designator DD?
Value: *
footprint S-PVQFN-N16
pins: 1 GND, 2 PA_OUT, 3 GND, 4 TR_SW, 5 LAN_IN, 6 HGM, 7 LNA_EN, 8 PA_EN, 9 GND, 10 LNA_OUT, 11 PA_IN, 12 GND, 13 VDD_LNA, 14 BIAS, 15 VDD_PA2, 16 VDD_PA1, 17 GND hidden, 18 GND hidden, 19 GND hidden, 20 GND hidden

## CP-2102
designator DD?
footprint VFQFN-28
pins: 0 GND, 1 DCD, 2 RI, 3 GND, 4 D+, 5 D-, 6 VDD, 7 REGIN, 8 VBUS, 9 ~{RST}, 10 ~{SUSPEND}, 11 SUSPEND, 23 CTS, 24 RTS, 25 RXD, 26 TXD, 27 DSR, 28 DTR

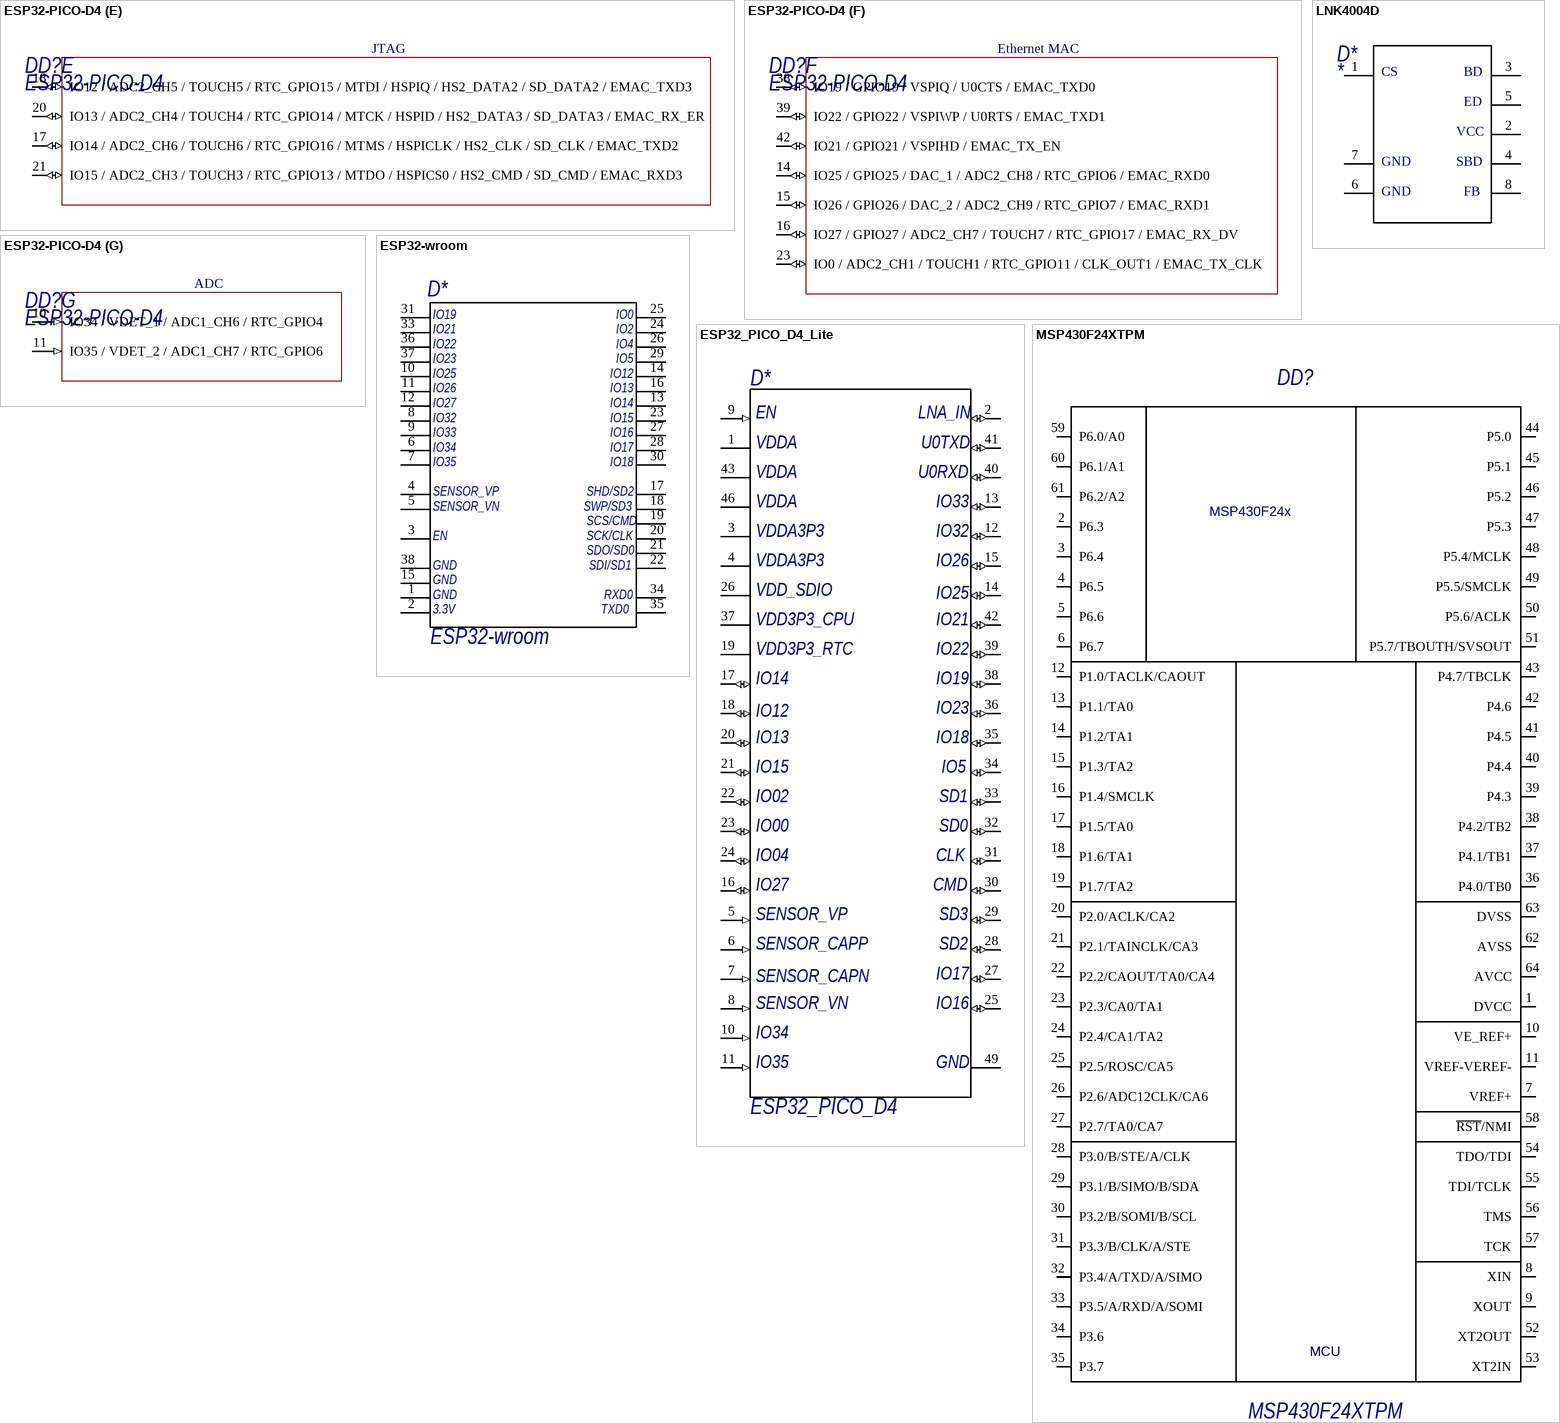
[diagram p7: symbols ESP32-PICO-D4 to MSP430F24XTPM]

## ESP32-PICO-D4
designator DD?
The ESP32-PICO-D4 is a System-in-Package (SIP) module that is based on ESP32, providing complete Wi-Fi / and Bluetooth functionalities. The module has a size as small as 7.0±0.1 mm×7.0±0.1 mm×0.94±0.1 mm, thus requiring minimal PCB area. The module integrates a 4-MB SPI flash.
footprint QFP50P1200X1200X160-65N
part A pins: 2 LNA_IN (io) "RF input and output", 9 EN / CHIP_PU (in) "High: On; enables the chip. Do not leave CHIP_PU pin floating", 28 SD2 / GPIO9 / SD_DATA2 / SPIHD / HS1_DATA2 / U1RXD (io), 29 SD3 / GPIO10 / SD_DATA3 / SPIWP / HS1_DATA3 / U1TXD (io), 34 IO5 / GPIO5 / VSPICS0 / HS1_DATA6 / EMAC_RX_CLK (io), 35 IO18 / GPIO18 / VSPICLK / HS1_DATA7 (io), 36 IO23 / GPIO23 / VSPID / HS1_STROBE (io), 40 U0RXD / GPIO3 / U0RXD / CLK_OUT2 (io), 41 U0TXD / GPIO1 / U0TXD / CLK_OUT3 / EMAC_RXD2 (io)
part B pins: 1 VDDA (power) "Analog power supply (2.3V ~ 3.6V)", 3 VDDA3P3 (power) "Power supply amplifier (2.3V ~ 3.6V)", 4 VDDA3P4 (power) "Power supply amplifier (2.3V ~ 3.6V)", 19 VDD3P3_RTC  (power) "RTC IO power supply input (1.8V ~ 3.6V)", 26 VDD_SDIO (power) "Output power supply: 1.8V or the same voltage as VDD3P3_RTC", 37 VDD3P3_CPU (power) "CPU IO power supply input (1.8V ~ 3.6V)", 43 VDDA (power) "Analog power supply (2.3V ~ 3.6V)", 46 VDDA (power) "Digital power supply for PLL (2.3V ~ 3.6V)", 49 GND (power)
part C pins: 25 IO16 / GPIO16 / HS1_DATA4 / U2RXD / EMAC_CLK_OUT (io), 27 IO17 / GPIO17 / HS1_DATA5 / U2TXD / EMAC_CLK_OUT_180 (io), 30 CMD / GPIO11 / SD_CMD / SPICS0 / HS1_CMD / U1RTS (io), 31 CLK / GPIO6 / SD_CLK / SPICLK / HS1_CLK / U1CTS (io), 32 SD0 / GPIO7 / SD_DATA0 / SPIQ / HS1_DATA0 / U2RTS (io), 33 SD1 / GPIO8 / SD_DATA1 / SPID / HS1_DATA1 / U2CTS (io)
part D pins: 5 SENSOR_VP / GPIO36 / ADC_PRE_AMP / ADC1_CH0 / RTC_GPIO0 (in) "Connects a 270 pF capacitor from SENSOR_VP to SENSOR_CAPP, when used as ADC_PRE_AMP.", 6 SENSOR_CAPP / GPIO37 / ADC_PRE_AMP / ADC1_CH1 / RTC_GPIO1 (in) "Connects a 270 pF capacitor from SENSOR_VP to SENSOR_CAPP, when used as ADC_PRE_AMP.", 7 SENSOR_CAPN / GPIO38 / ADC1_CH2 / ADC_PRE_AMP / RTC_GPIO2 (in) "Connects a 270 pF capacitor from SENSOR_VN to SENSOR_CAPN, when used as ADC_PRE_AMP", 8 SENSOR_VN / GPIO39 / ADC1_CH3 / ADC_PRE_AMP / RTC_GPIO3 (in) "Connects a 270 pF capacitor from SENSOR_VN to SENSOR_CAPN, when used as ADC_PRE_AMP", 12 IO32 / 32K_XP / ADC1_CH4 / TOUCH9 / RTC_GPIO9 (io) "32.768 kHz crystal oscillator input", 13 IO33 / 32K_XN / ADC1_CH5 / TOUCH8 / RTC_GPIO8 (io) "32.768 kHz crystal oscillator output", 22 IO2 / ADC2_CH2 / TOUCH2 / RTC_GPIO12 / HSPIWP / HS2_DATA0 / SD_DATA0 (io), 24 IO4 / ADC2_CH0 / TOUCH0 / RTC_GPIO10 / HSPIHD / HS2_DATA1 / SD_DATA1 / EMAC_TX_ER (io)
part E pins: 17 IO14 / ADC2_CH6 / TOUCH6 / RTC_GPIO16 / MTMS / HSPICLK / HS2_CLK / SD_CLK / EMAC_TXD2 (io), 18 IO12 / ADC2_CH5 / TOUCH5 / RTC_GPIO15 / MTDI / HSPIQ / HS2_DATA2 / SD_DATA2 / EMAC_TXD3 (io), 20 IO13 / ADC2_CH4 / TOUCH4 / RTC_GPIO14 / MTCK / HSPID / HS2_DATA3 / SD_DATA3 / EMAC_RX_ER (io), 21 IO15 / ADC2_CH3 / TOUCH3 / RTC_GPIO13 / MTDO / HSPICS0 / HS2_CMD / SD_CMD / EMAC_RXD3 (io)
part F pins: 14 IO25 / GPIO25 / DAC_1 / ADC2_CH8 / RTC_GPIO6 / EMAC_RXD0 (io), 15 IO26 / GPIO26 / DAC_2 / ADC2_CH9 / RTC_GPIO7 / EMAC_RXD1 (io), 16 IO27 / GPIO27 / ADC2_CH7 / TOUCH7 / RTC_GPIO17 / EMAC_RX_DV (io), 23 IO0 / ADC2_CH1 / TOUCH1 / RTC_GPIO11 / CLK_OUT1 / EMAC_TX_CLK (io), 38 IO19 / GPIO19 / VSPIQ / U0CTS / EMAC_TXD0 (io), 39 IO22 / GPIO22 / VSPIWP / U0RTS / EMAC_TXD1 (io), 42 IO21 / GPIO21 / VSPIHD / EMAC_TX_EN (io)
part G pins: 10 IO34 / VDET_1 / ADC1_CH6 / RTC_GPIO4 (in), 11 IO35 / VDET_2 / ADC1_CH7 / RTC_GPIO6 (in)
part B text: Power
part C text: Embedded flash
part D text: Capacitive touch sensors
part E text: JTAG
part F text: Ethernet MAC
part G text: ADC

## ESP32-wroom
designator D*
ESP32
footprint ESP32-WROOM
pins: 1, 2, 3, 4, 5, 6, 7, 8, 9, 10, 11, 12, 13, 14, 15, 16, 17, 18, 19, 20, 21, 22, 23, 24, 25, 26, 27, 28, 29, 30, 31, 33, 34, 35, 36, 37, 38
text: IO19; IO0; IO21; IO2; IO22; IO4; IO23; IO5; IO25; IO12; IO26; IO13; IO27; IO14; IO32; IO15; IO33; IO16; IO34; IO17; IO35; IO18; SENSOR_VP; SHD/SD2; SENSOR_VN; SWP/SD3; SCS/CMD; EN; SCK/CLK; SDO/SD0; GND; SDI/SD1; RXD0; 3.3V; TXD0

## ESP32_PICO_D4_Lite
designator D*, comment ESP32_PICO_D4
Microcontroller; Datasheet: https://www.espressif.com/sites/default/files/documentation/esp32-pico-d4_datasheet_en.pdf
footprint QFP50P1200X1200X160-65N
pins: 1 (power), 2 (io), 3 (power), 4 (power), 5 (in), 6 (in), 7 (in), 8 (in), 9 (in), 10 (in), 11 (in), 12 (io), 13 (io), 14 (io), 15 (io), 16 (io), 17 (io), 18 (io), 19 (power), 20 (io), 21 (io), 22 (io), 23 (io), 24 (io), 25 (io), 26 (power), 27 (io), 28 (io), 29 (io), 30 (io), 31 (io), 32 (io), 33 (io), 34 (io), 35 (io), 36 (io), 37 (power), 38 (io), 39 (io), 40 (io), 41 (io), 42 (io), 43 (power), 46 (power), 49
text: EN; LNA_IN; VDDA; U0TXD; U0RXD; IO33; VDDA3P3; IO32; IO26; VDD_SDIO; IO25; VDD3P3_CPU; IO21; VDD3P3_RTC; IO22; IO14; IO19; IO12; IO23; IO13; IO18; IO15; IO5; IO02; SD1; IO00; SD0; IO04; CLK; IO27; CMD; SENSOR_VP; SD3; SENSOR_CAPP; SD2; IO17; SENSOR_CAPN; SENSOR_VN; IO16; IO34; IO35; GND

## LNK4004D
designator D*
footprint SO-8
pins: 1, 2, 3, 4, 5, 6, 7, 8
text: CS; BD; ED; VCC; GND; SBD; FB

## MSP430F24XTPM
designator DD?
Value: *
footprint LQFP-64-MSP430F235
pins: 1 DVCC, 2 P6.3, 3 P6.4, 4 P6.5, 5 P6.6, 6 P6.7, 7 VREF+, 8 XIN, 9 XOUT, 10 VE_REF+, 11 VREF-VEREF-, 12 P1.0/TACLK/CAOUT, 13 P1.1/TA0, 14 P1.2/TA1, 15 P1.3/TA2, 16 P1.4/SMCLK, 17 P1.5/TA0, 18 P1.6/TA1, 19 P1.7/TA2, 20 P2.0/ACLK/CA2, 21 P2.1/TAINCLK/CA3, 22 P2.2/CAOUT/TA0/CA4, 23 P2.3/CA0/TA1, 24 P2.4/CA1/TA2, 25 P2.5/ROSC/CA5, 26 P2.6/ADC12CLK/CA6, 27 P2.7/TA0/CA7, 28 P3.0/B/STE/A/CLK, 29 P3.1/B/SIMO/B/SDA, 30 P3.2/B/SOMI/B/SCL, 31 P3.3/B/CLK/A/STE, 32 P3.4/A/TXD/A/SIMO, 33 P3.5/A/RXD/A/SOMI, 34 P3.6, 35 P3.7, 36 P4.0/TB0, 37 P4.1/TB1, 38 P4.2/TB2, 39 P4.3, 40 P4.4, 41 P4.5, 42 P4.6, 43 P4.7/TBCLK, 44 P5.0, 45 P5.1, 46 P5.2, 47 P5.3, 48 P5.4/MCLK, 49 P5.5/SMCLK, 50 P5.6/ACLK, 51 P5.7/TBOUTH/SVSOUT, 52 XT2OUT, 53 XT2IN, 54 TDO/TDI, 55 TDI/TCLK, 56 TMS, 57 TCK, 58 ~{RST}/NMI, 59 P6.0/A0, 60 P6.1/A1, 61 P6.2/A2, 62 AVSS, 63 DVSS, 64 AVCC
text: MSP430F24x; MCU

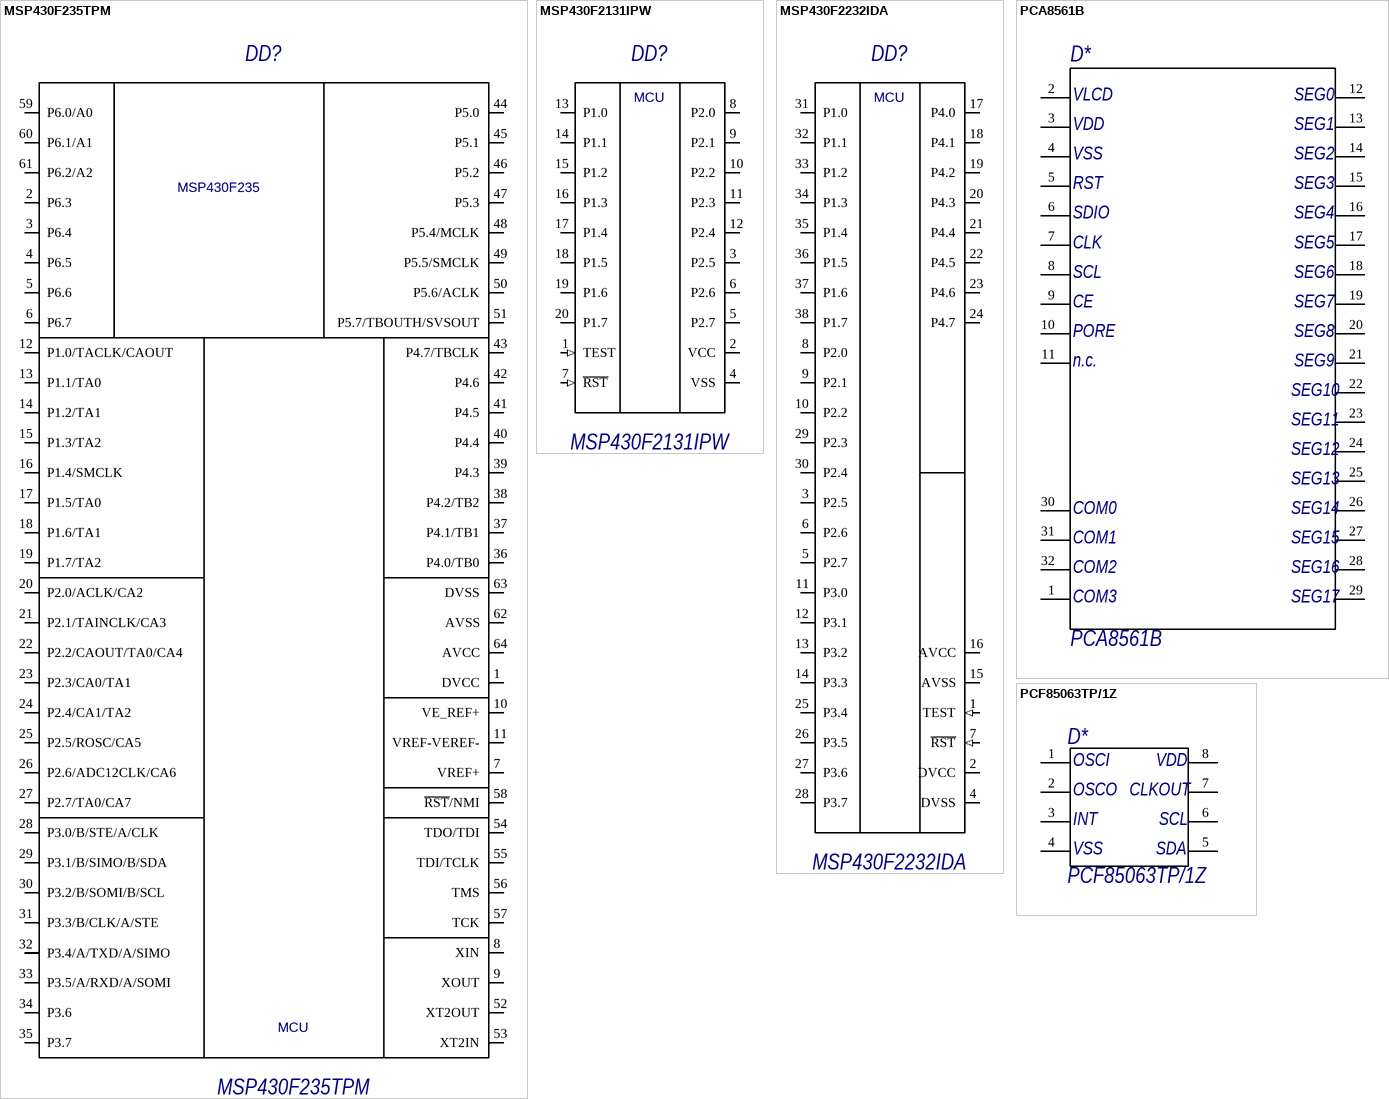
[diagram p8: symbols MSP430F235TPM to PCF85063TP/1Z]

## MSP430F235TPM
designator DD?
Value: *
footprint LQFP-64-MSP430F235
pins: 1 DVCC, 2 P6.3, 3 P6.4, 4 P6.5, 5 P6.6, 6 P6.7, 7 VREF+, 8 XIN, 9 XOUT, 10 VE_REF+, 11 VREF-VEREF-, 12 P1.0/TACLK/CAOUT, 13 P1.1/TA0, 14 P1.2/TA1, 15 P1.3/TA2, 16 P1.4/SMCLK, 17 P1.5/TA0, 18 P1.6/TA1, 19 P1.7/TA2, 20 P2.0/ACLK/CA2, 21 P2.1/TAINCLK/CA3, 22 P2.2/CAOUT/TA0/CA4, 23 P2.3/CA0/TA1, 24 P2.4/CA1/TA2, 25 P2.5/ROSC/CA5, 26 P2.6/ADC12CLK/CA6, 27 P2.7/TA0/CA7, 28 P3.0/B/STE/A/CLK, 29 P3.1/B/SIMO/B/SDA, 30 P3.2/B/SOMI/B/SCL, 31 P3.3/B/CLK/A/STE, 32 P3.4/A/TXD/A/SIMO, 33 P3.5/A/RXD/A/SOMI, 34 P3.6, 35 P3.7, 36 P4.0/TB0, 37 P4.1/TB1, 38 P4.2/TB2, 39 P4.3, 40 P4.4, 41 P4.5, 42 P4.6, 43 P4.7/TBCLK, 44 P5.0, 45 P5.1, 46 P5.2, 47 P5.3, 48 P5.4/MCLK, 49 P5.5/SMCLK, 50 P5.6/ACLK, 51 P5.7/TBOUTH/SVSOUT, 52 XT2OUT, 53 XT2IN, 54 TDO/TDI, 55 TDI/TCLK, 56 TMS, 57 TCK, 58 ~{RST}/NMI, 59 P6.0/A0, 60 P6.1/A1, 61 P6.2/A2, 62 AVSS, 63 DVSS, 64 AVCC
text: MSP430F235; MCU

## MSP430F2131IPW
designator DD?
Value: *
footprint TSSOP-20
pins: 1 TEST (in), 2 VCC (power), 3 P2.5 (io), 4 VSS (power), 5 P2.7 (io), 6 P2.6 (io), 7 ~{RST} (in), 8 P2.0 (io), 9 P2.1 (io), 10 P2.2 (io), 11 P2.3 (io), 12 P2.4 (io), 13 P1.0 (io), 14 P1.1 (io), 15 P1.2 (io), 16 P1.3 (io), 17 P1.4 (io), 18 P1.5 (io), 19 P1.6 (io), 20 P1.7 (io)
text: MCU

## MSP430F2232IDA
designator DD?
Value: *
footprint TSSOP-38
pins: 1 TEST (in), 2 DVCC (power), 3 P2.5 (io), 4 DVSS (power), 5 P2.7 (io), 6 P2.6 (io), 7 ~{RST} (in), 8 P2.0 (io), 9 P2.1 (io), 10 P2.2 (io), 11 P3.0 (io), 12 P3.1 (io), 13 P3.2 (io), 14 P3.3 (io), 15 AVSS (power), 16 AVCC (power), 17 P4.0 (io), 18 P4.1 (io), 19 P4.2 (io), 20 P4.3 (io), 21 P4.4 (io), 22 P4.5 (io), 23 P4.6 (io), 24 P4.7 (io), 25 P3.4 (io), 26 P3.5 (io), 27 P3.6 (io), 28 P3.7 (io), 29 P2.3 (io), 30 P2.4 (io), 31 P1.0 (io), 32 P1.1 (io), 33 P1.2 (io), 34 P1.3 (io), 35 P1.4 (io), 36 P1.5 (io), 37 P1.6 (io), 38 P1.7 (io)
text: MCU

## PCA8561B
designator D*
LCD driver
footprint HVQFN32
pins: 1, 2, 3, 4, 5, 6, 7, 8, 9, 10, 11, 12, 13, 14, 15, 16, 17, 18, 19, 20, 21, 22, 23, 24, 25, 26, 27, 28, 29, 30, 31, 32
text: VLCD; SEG0; VDD; SEG1; VSS; SEG2; RST; SEG3; SDIO; SEG4; CLK; SEG5; SCL; SEG6; CE; SEG7; PORE; SEG8; n.c.; SEG9; SEG10; SEG11; SEG12; SEG13; COM0; SEG14; COM1; SEG15; COM2; SEG16; COM3; SEG17

## PCF85063TP/1Z
designator D*
Calendar
footprint HWSON8
pins: 1, 2, 3, 4, 5, 6, 7, 8
text: OSCI; VDD; OSCO; CLKOUT; INT; SCL; VSS; SDA

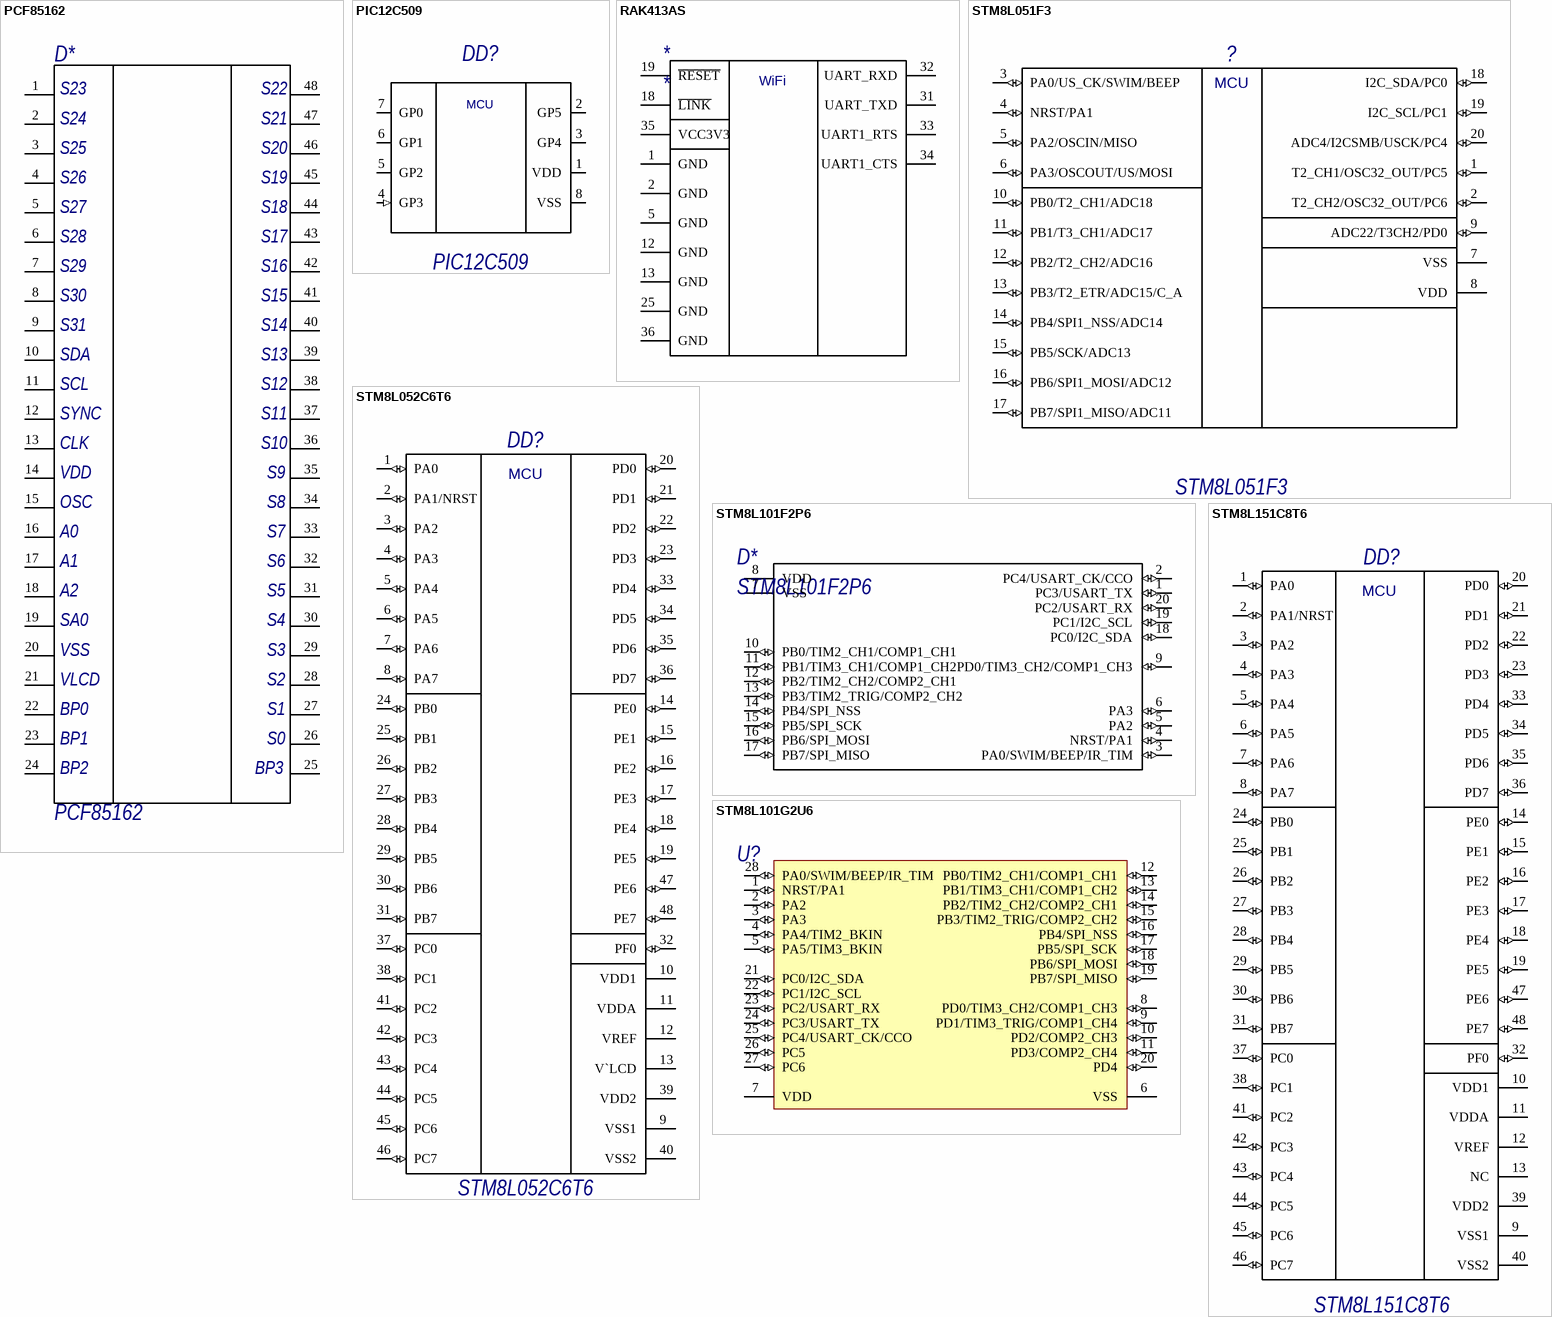
[diagram p9: symbols PCF85162 to STM8L151C8T6]

## PCF85162
designator D*
LCD driver; Datasheet: https://www.nxp.com/docs/en/data-sheet/PCF85162.pdf
footprint TSSOP48
pins: 1, 2, 3, 4, 5, 6, 7, 8, 9, 10, 11, 12, 13, 14, 15, 16, 17, 18, 19, 20, 21, 22, 23, 24, 25, 26, 27, 28, 29, 30, 31, 32, 33, 34, 35, 36, 37, 38, 39, 40, 41, 42, 43, 44, 45, 46, 47, 48
text: S23; S22; S24; S21; S25; S20; S26; S19; S27; S18; S28; S17; S29; S16; S30; S15; S31; S14; SDA; S13; SCL; S12; SYNC; S11; CLK; S10; VDD; S9; OSC; S8; A0; S7; A1; S6; A2; S5; SA0; S4; VSS; S3; VLCD; S2; BP0; S1; BP1; S0; BP2; BP3

## PIC12C509
designator DD?
Value: *
footprint PDIP-8
pins: 1 VDD (power), 2 GP5 (io), 3 GP4 (io), 4 GP3 (in), 5 GP2 (io), 6 GP1 (io), 7 GP0 (io), 8 VSS (power)
text: MCU

## RAK413AS
designator *
footprint RAK413AS
pins: 1 GND, 2 GND, 5 GND, 12 GND, 13 GND, 18 ~{LINK}, 19 ~{RESET}, 25 GND, 31 UART_TXD, 32 UART_RXD, 33 UART1_RTS, 34 UART1_CTS, 35 VCC3V3, 36 GND
text: WiFi

## STM8L051F3
designator ?
Value: *
footprint TSSOP-20
pins: 1 T2_CH1/OSC32_OUT/PC5 (io), 2 T2_CH2/OSC32_OUT/PC6 (io), 3 PA0/US_CK/SWIM/BEEP (io), 4 NRST/PA1 (io), 5 PA2/OSCIN/MISO (io), 6 PA3/OSCOUT/US/MOSI (io), 7 VSS (power), 8 VDD (power), 9 ADC22/T3CH2/PD0 (io), 10 PB0/T2_CH1/ADC18 (io), 11 PB1/T3_CH1/ADC17 (io), 12 PB2/T2_CH2/ADC16 (io), 13 PB3/T2_ETR/ADC15/C_A (io), 14 PB4/SPI1_NSS/ADC14 (io), 15 PB5/SCK/ADC13 (io), 16 PB6/SPI1_MOSI/ADC12 (io), 17 PB7/SPI1_MISO/ADC11 (io), 18 I2C_SDA/PC0 (io), 19 I2C_SCL/PC1 (io), 20 ADC4/I2CSMB/USCK/PC4 (io)
text: MCU

## STM8L052C6T6
designator DD?
Value: *
footprint LQFP-48
pins: 1 PA0 (io), 2 PA1/NRST (io), 3 PA2 (io), 4 PA3 (io), 5 PA4 (io), 6 PA5 (io), 7 PA6 (io), 8 PA7 (io), 9 VSS1, 10 VDD1, 11 VDDA, 12 VREF, 13 V`LCD, 14 PE0 (io), 15 PE1 (io), 16 PE2 (io), 17 PE3 (io), 18 PE4 (io), 19 PE5 (io), 20 PD0 (io), 21 PD1 (io), 22 PD2 (io), 23 PD3 (io), 24 PB0 (io), 25 PB1 (io), 26 PB2 (io), 27 PB3 (io), 28 PB4 (io), 29 PB5 (io), 30 PB6 (io), 31 PB7 (io), 32 PF0 (io), 33 PD4 (io), 34 PD5 (io), 35 PD6 (io), 36 PD7 (io), 37 PC0 (io), 38 PC1 (io), 39 VDD2, 40 VSS2, 41 PC2 (io), 42 PC3 (io), 43 PC4 (io), 44 PC5 (io), 45 PC6 (io), 46 PC7 (io), 47 PE6 (io), 48 PE7 (io)
text: MCU

## STM8L101F2P6
designator D*
Microcontroller; Manufacture: ST; Datasheet: http://www.st.com/content/ccc/resource/technical/document/datasheet/cb/08/7a/32/32/d8/4d/23/CD00220591.pdf/files/CD00220591.pdf/jcr:content/translations/en.CD00220591.pdf
footprint TSSOP-20
pins: 1 PC3/USART_TX (io), 2 PC4/USART_CK/CCO (io), 3 PA0/SWIM/BEEP/IR_TIM (io), 4 NRST/PA1 (io), 5 PA2 (io), 6 PA3 (io), 7 VSS (power), 8 VDD (power), 9 PD0/TIM3_CH2/COMP1_CH3 (io), 10 PB0/TIM2_CH1/COMP1_CH1 (io), 11 PB1/TIM3_CH1/COMP1_CH2 (io), 12 PB2/TIM2_CH2/COMP2_CH1 (io), 13 PB3/TIM2_TRIG/COMP2_CH2 (io), 14 PB4/SPI_NSS (io), 15 PB5/SPI_SCK (io), 16 PB6/SPI_MOSI (io), 17 PB7/SPI_MISO (io), 18 PC0/I2C_SDA (io), 19 PC1/I2C_SCL (io), 20 PC2/USART_RX (io)

## STM8L101G2U6
designator U?
STM8L ARM-based EnergyLite 8-bit MCU, 4 kB Flash, 1.5 kB Internal RAM, -40 to +85°C Temperature, 28-pin UFQFPN, Tray; PackageVersion: 26/04/2010; PackageReference: UFQFPN28; PackageDescription: 28-Pin Ultra Thin Fine Pitch Quad Flat No-Lead, 4 x 4 x 0.55 mm Body, 0.5 mm Pitch; ComponentLink1Description: Manufacturer URL; ComponentLink1URL: http://www.st.com/; ComponentLink2Description: STM8L101 Datasheet; ComponentLink2URL: http://www.st.com/internet/com/TECHNICAL_RESOURCES/TECHNICAL_LITERATURE/DATASHEET/CD00220591.pdf; ComponentLink3Description: STM8L Family Web Page; ComponentLink3URL: http://www.st.com/internet/mcu/subclass/1381.jsp
footprint UFQFPN28_V (QFN, 28-Leads, Body 4x4mm, Pitch 0.5mm, ST Recommended)
pins: 1 NRST/PA1 (io), 2 PA2 (io), 3 PA3 (io), 4 PA4/TIM2_BKIN (io), 5 PA5/TIM3_BKIN (io), 6 VSS (power), 7 VDD (power), 8 PD0/TIM3_CH2/COMP1_CH3 (io), 9 PD1/TIM3_TRIG/COMP1_CH4 (io), 10 PD2/COMP2_CH3 (io), 11 PD3/COMP2_CH4 (io), 12 PB0/TIM2_CH1/COMP1_CH1 (io), 13 PB1/TIM3_CH1/COMP1_CH2 (io), 14 PB2/TIM2_CH2/COMP2_CH1 (io), 15 PB3/TIM2_TRIG/COMP2_CH2 (io), 16 PB4/SPI_NSS (io), 17 PB5/SPI_SCK (io), 18 PB6/SPI_MOSI (io), 19 PB7/SPI_MISO (io), 20 PD4 (io), 21 PC0/I2C_SDA (io), 22 PC1/I2C_SCL (io), 23 PC2/USART_RX (io), 24 PC3/USART_TX (io), 25 PC4/USART_CK/CCO (io), 26 PC5 (io), 27 PC6 (io), 28 PA0/SWIM/BEEP/IR_TIM (io)

## STM8L151C8T6
designator DD?
Value: *
footprint LQFP-48
pins: 1 PA0 (io), 2 PA1/NRST (io), 3 PA2 (io), 4 PA3 (io), 5 PA4 (io), 6 PA5 (io), 7 PA6 (io), 8 PA7 (io), 9 VSS1, 10 VDD1, 11 VDDA, 12 VREF, 13 NC, 14 PE0 (io), 15 PE1 (io), 16 PE2 (io), 17 PE3 (io), 18 PE4 (io), 19 PE5 (io), 20 PD0 (io), 21 PD1 (io), 22 PD2 (io), 23 PD3 (io), 24 PB0 (io), 25 PB1 (io), 26 PB2 (io), 27 PB3 (io), 28 PB4 (io), 29 PB5 (io), 30 PB6 (io), 31 PB7 (io), 32 PF0 (io), 33 PD4 (io), 34 PD5 (io), 35 PD6 (io), 36 PD7 (io), 37 PC0 (io), 38 PC1 (io), 39 VDD2, 40 VSS2, 41 PC2 (io), 42 PC3 (io), 43 PC4 (io), 44 PC5 (io), 45 PC6 (io), 46 PC7 (io), 47 PE6 (io), 48 PE7 (io)
text: MCU

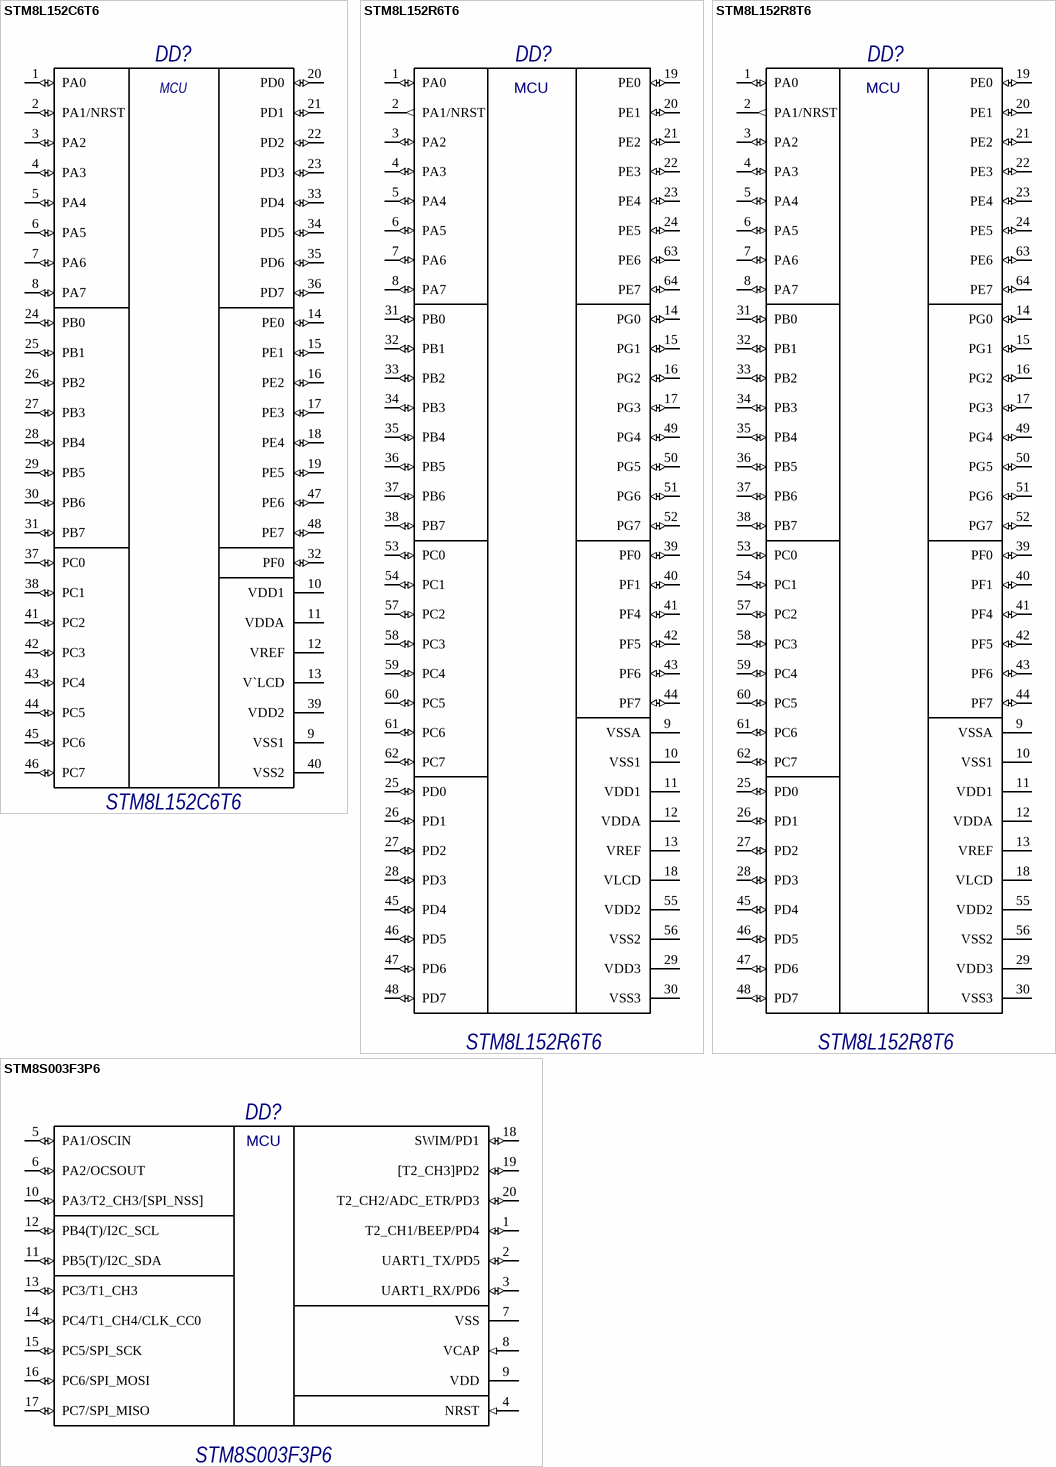
[diagram p10: symbols STM8L152C6T6 to STM8S003F3P6]

## STM8L152C6T6
designator DD?
Value: *
footprint LQFP-48
pins: 1 PA0 (io), 2 PA1/NRST (io), 3 PA2 (io), 4 PA3 (io), 5 PA4 (io), 6 PA5 (io), 7 PA6 (io), 8 PA7 (io), 9 VSS1, 10 VDD1, 11 VDDA, 12 VREF, 13 V`LCD, 14 PE0 (io), 15 PE1 (io), 16 PE2 (io), 17 PE3 (io), 18 PE4 (io), 19 PE5 (io), 20 PD0 (io), 21 PD1 (io), 22 PD2 (io), 23 PD3 (io), 24 PB0 (io), 25 PB1 (io), 26 PB2 (io), 27 PB3 (io), 28 PB4 (io), 29 PB5 (io), 30 PB6 (io), 31 PB7 (io), 32 PF0 (io), 33 PD4 (io), 34 PD5 (io), 35 PD6 (io), 36 PD7 (io), 37 PC0 (io), 38 PC1 (io), 39 VDD2, 40 VSS2, 41 PC2 (io), 42 PC3 (io), 43 PC4 (io), 44 PC5 (io), 45 PC6 (io), 46 PC7 (io), 47 PE6 (io), 48 PE7 (io)
text: MCU

## STM8L152R6T6
designator DD?
Value: *
footprint LQFP64(SOT314-2)
pins: 1 PA0 (io), 2 PA1/NRST (out), 3 PA2 (io), 4 PA3 (io), 5 PA4 (io), 6 PA5 (io), 7 PA6 (io), 8 PA7 (io), 9 VSSA, 10 VSS1, 11 VDD1, 12 VDDA, 13 VREF, 14 PG0 (io), 15 PG1 (io), 16 PG2 (io), 17 PG3 (io), 18 VLCD, 19 PE0 (io), 20 PE1 (io), 21 PE2 (io), 22 PE3 (io), 23 PE4 (io), 24 PE5 (io), 25 PD0 (io), 26 PD1 (io), 27 PD2 (io), 28 PD3 (io), 29 VDD3, 30 VSS3, 31 PB0 (io), 32 PB1 (io), 33 PB2 (io), 34 PB3 (io), 35 PB4 (io), 36 PB5 (io), 37 PB6 (io), 38 PB7 (io), 39 PF0 (io), 40 PF1 (io), 41 PF4 (io), 42 PF5 (io), 43 PF6 (io), 44 PF7 (io), 45 PD4 (io), 46 PD5 (io), 47 PD6 (io), 48 PD7 (io), 49 PG4 (io), 50 PG5 (io), 51 PG6 (io), 52 PG7 (io), 53 PC0 (io), 54 PC1 (io), 55 VDD2, 56 VSS2, 57 PC2 (io), 58 PC3 (io), 59 PC4 (io), 60 PC5 (io), 61 PC6 (io), 62 PC7 (io), 63 PE6 (io), 64 PE7 (io)
text: MCU

## STM8L152R8T6
designator DD?
Value: *
footprint LQFP64(SOT314-2)
pins: 1 PA0 (io), 2 PA1/NRST (out), 3 PA2 (io), 4 PA3 (io), 5 PA4 (io), 6 PA5 (io), 7 PA6 (io), 8 PA7 (io), 9 VSSA, 10 VSS1, 11 VDD1, 12 VDDA, 13 VREF, 14 PG0 (io), 15 PG1 (io), 16 PG2 (io), 17 PG3 (io), 18 VLCD, 19 PE0 (io), 20 PE1 (io), 21 PE2 (io), 22 PE3 (io), 23 PE4 (io), 24 PE5 (io), 25 PD0 (io), 26 PD1 (io), 27 PD2 (io), 28 PD3 (io), 29 VDD3, 30 VSS3, 31 PB0 (io), 32 PB1 (io), 33 PB2 (io), 34 PB3 (io), 35 PB4 (io), 36 PB5 (io), 37 PB6 (io), 38 PB7 (io), 39 PF0 (io), 40 PF1 (io), 41 PF4 (io), 42 PF5 (io), 43 PF6 (io), 44 PF7 (io), 45 PD4 (io), 46 PD5 (io), 47 PD6 (io), 48 PD7 (io), 49 PG4 (io), 50 PG5 (io), 51 PG6 (io), 52 PG7 (io), 53 PC0 (io), 54 PC1 (io), 55 VDD2, 56 VSS2, 57 PC2 (io), 58 PC3 (io), 59 PC4 (io), 60 PC5 (io), 61 PC6 (io), 62 PC7 (io), 63 PE6 (io), 64 PE7 (io)
text: MCU

## STM8S003F3P6
designator DD?
Value: *
footprint TSSOP-20
pins: 1 T2_CH1/BEEP/PD4 (io), 2 UART1_TX/PD5 (io), 3 UART1_RX/PD6 (io), 4 NRST (in), 5 PA1/OSCIN (io), 6 PA2/OCSOUT (io), 7 VSS (power), 8 VCAP (in), 9 VDD (power), 10 PA3/T2_CH3/[SPI_NSS] (io), 11 PB5(T)/I2C_SDA (io), 12 PB4(T)/I2C_SCL (io), 13 PC3/T1_CH3 (io), 14 PC4/T1_CH4/CLK_CC0 (io), 15 PC5/SPI_SCK (io), 16 PC6/SPI_MOSI (io), 17 PC7/SPI_MISO (io), 18 SWIM/PD1 (io), 19 [T2_CH3]PD2 (io), 20 T2_CH2/ADC_ETR/PD3 (io)
text: MCU

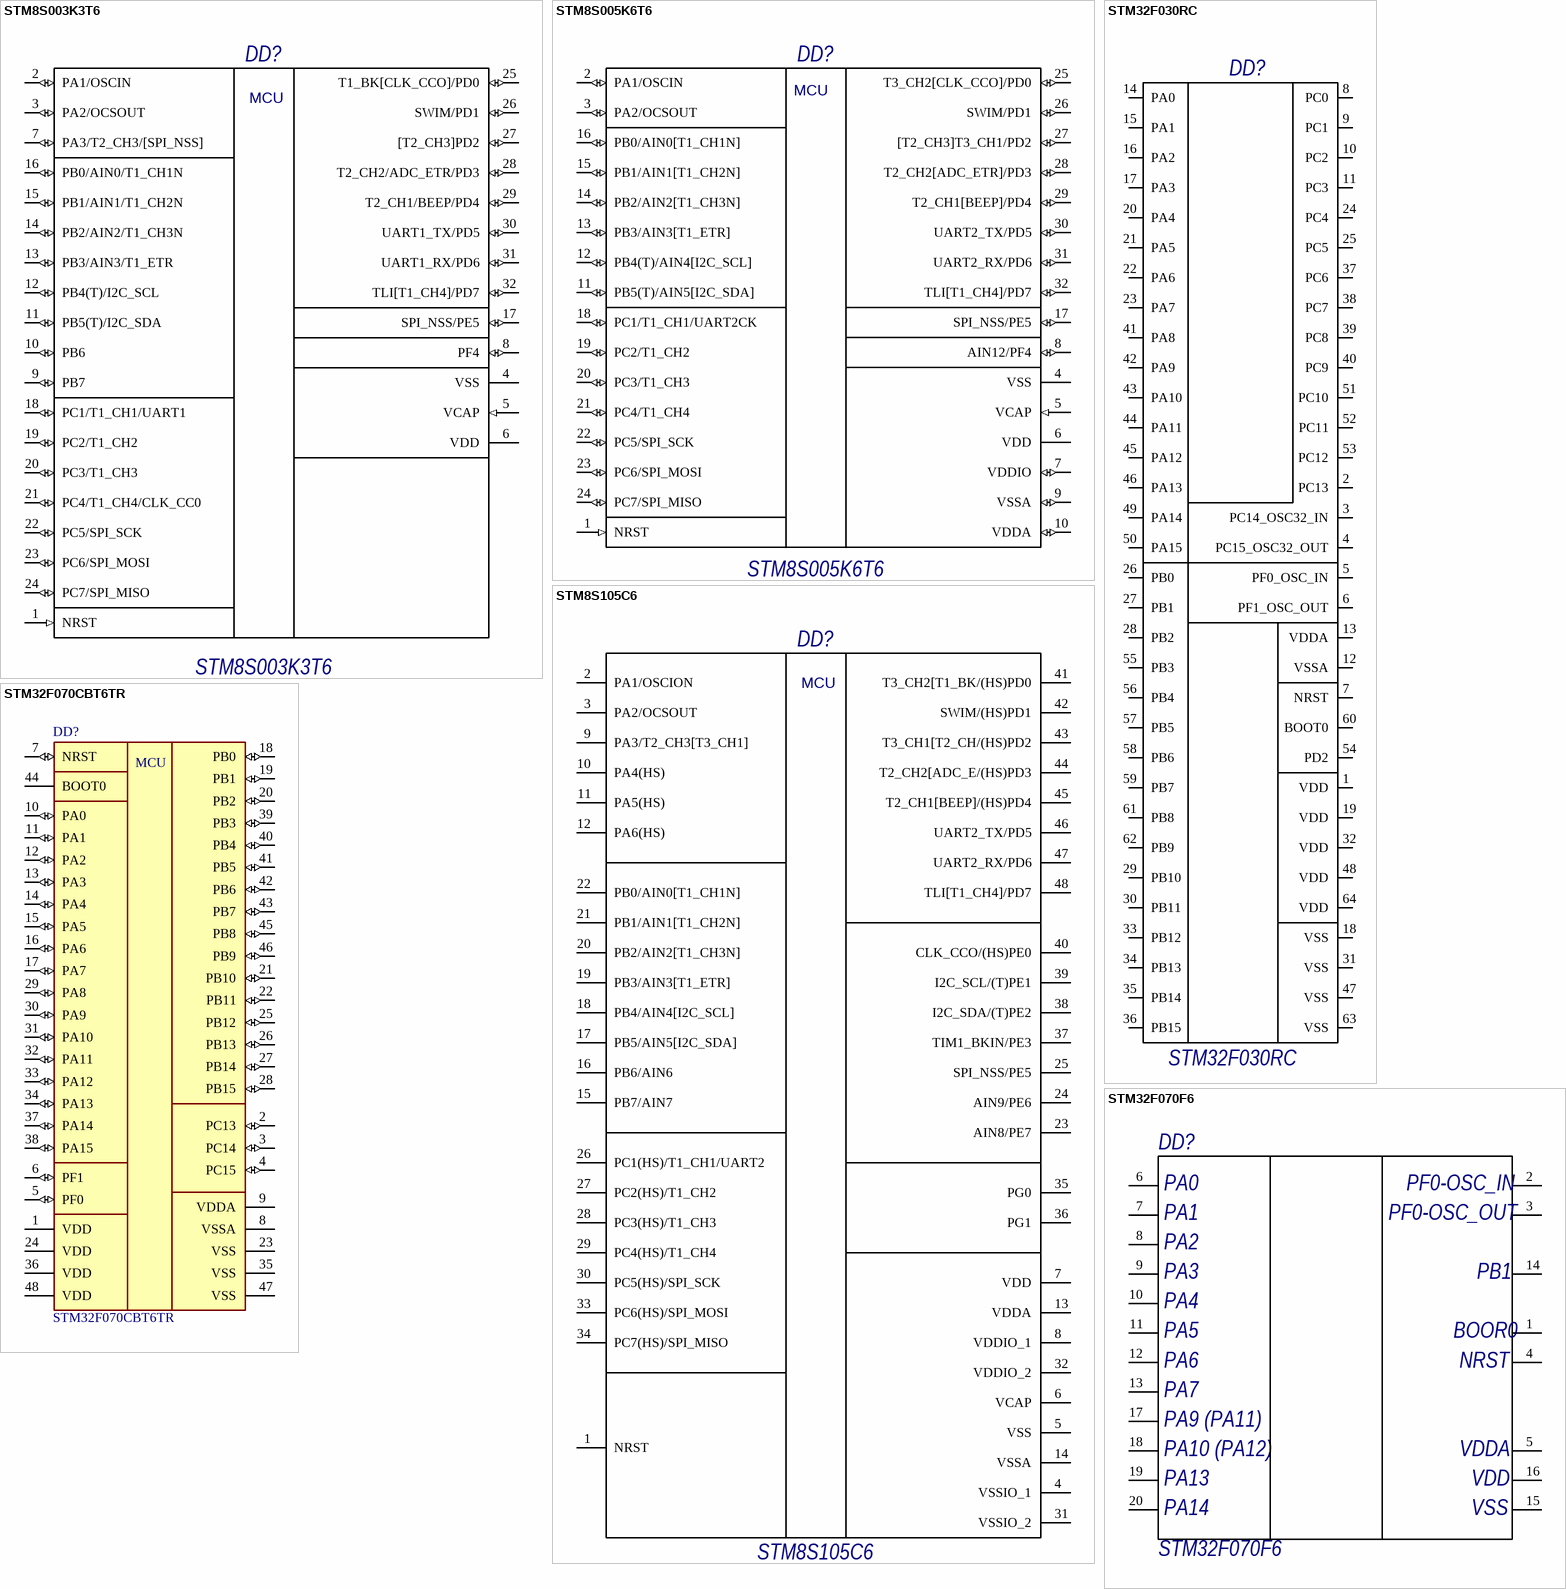
[diagram p11: symbols STM8S003K3T6 to STM32F070F6]

## STM8S003K3T6
designator DD?
Value: *
footprint LQFP-32
pins: 1 NRST (in), 2 PA1/OSCIN (io), 3 PA2/OCSOUT (io), 4 VSS (power), 5 VCAP (in), 6 VDD (power), 7 PA3/T2_CH3/[SPI_NSS] (io), 8 PF4 (io), 9 PB7 (io), 10 PB6 (io), 11 PB5(T)/I2C_SDA (io), 12 PB4(T)/I2C_SCL (io), 13 PB3/AIN3/T1_ETR (io), 14 PB2/AIN2/T1_CH3N (io), 15 PB1/AIN1/T1_CH2N (io), 16 PB0/AIN0/T1_CH1N (io), 17 SPI_NSS/PE5 (io), 18 PC1/T1_CH1/UART1 (io), 19 PC2/T1_CH2 (io), 20 PC3/T1_CH3 (io), 21 PC4/T1_CH4/CLK_CC0 (io), 22 PC5/SPI_SCK (io), 23 PC6/SPI_MOSI (io), 24 PC7/SPI_MISO (io), 25 T1_BK[CLK_CCO]/PD0 (io), 26 SWIM/PD1 (io), 27 [T2_CH3]PD2 (io), 28 T2_CH2/ADC_ETR/PD3 (io), 29 T2_CH1/BEEP/PD4 (io), 30 UART1_TX/PD5 (io), 31 UART1_RX/PD6 (io), 32 TLI[T1_CH4]/PD7 (io)
text: MCU

## STM8S005K6T6
designator DD?
Value: *
footprint LQFP-32
pins: 1 NRST (in), 2 PA1/OSCIN (io), 3 PA2/OCSOUT (io), 4 VSS (power), 5 VCAP (in), 6 VDD (power), 7 VDDIO (io), 8 AIN12/PF4 (io), 9 VSSA (io), 10 VDDA (io), 11 PB5(T)/AIN5[I2C_SDA] (io), 12 PB4(T)/AIN4[I2C_SCL] (io), 13 PB3/AIN3[T1_ETR] (io), 14 PB2/AIN2[T1_CH3N] (io), 15 PB1/AIN1[T1_CH2N] (io), 16 PB0/AIN0[T1_CH1N] (io), 17 SPI_NSS/PE5 (io), 18 PC1/T1_CH1/UART2CK (io), 19 PC2/T1_CH2 (io), 20 PC3/T1_CH3 (io), 21 PC4/T1_CH4 (io), 22 PC5/SPI_SCK (io), 23 PC6/SPI_MOSI (io), 24 PC7/SPI_MISO (io), 25 T3_CH2[CLK_CCO]/PD0 (io), 26 SWIM/PD1 (io), 27 [T2_CH3]T3_CH1/PD2 (io), 28 T2_CH2[ADC_ETR]/PD3 (io), 29 T2_CH1[BEEP]/PD4 (io), 30 UART2_TX/PD5 (io), 31 UART2_RX/PD6 (io), 32 TLI[T1_CH4]/PD7 (io)
text: MCU

## STM8S105C6
designator DD?
Value: *
footprint LQFP-48
pins: 1 NRST, 2 PA1/OSCION, 3 PA2/OCSOUT, 4 VSSIO_1, 5 VSS, 6 VCAP, 7 VDD, 8 VDDIO_1, 9 PA3/T2_CH3[T3_CH1], 10 PA4(HS), 11 PA5(HS), 12 PA6(HS), 13 VDDA, 14 VSSA, 15 PB7/AIN7, 16 PB6/AIN6, 17 PB5/AIN5[I2C_SDA], 18 PB4/AIN4[I2C_SCL], 19 PB3/AIN3[T1_ETR], 20 PB2/AIN2[T1_CH3N], 21 PB1/AIN1[T1_CH2N], 22 PB0/AIN0[T1_CH1N], 23 AIN8/PE7, 24 AIN9/PE6, 25 SPI_NSS/PE5, 26 PC1(HS)/T1_CH1/UART2, 27 PC2(HS)/T1_CH2, 28 PC3(HS)/T1_CH3, 29 PC4(HS)/T1_CH4, 30 PC5(HS)/SPI_SCK, 31 VSSIO_2, 32 VDDIO_2, 33 PC6(HS)/SPI_MOSI, 34 PC7(HS)/SPI_MISO, 35 PG0, 36 PG1, 37 TIM1_BKIN/PE3, 38 I2C_SDA/(T)PE2, 39 I2C_SCL/(T)PE1, 40 CLK_CCO/(HS)PE0, 41 T3_CH2[T1_BK/(HS)PD0, 42 SWIM/(HS)PD1, 43 T3_CH1[T2_CH/(HS)PD2, 44 T2_CH2[ADC_E/(HS)PD3, 45 T2_CH1[BEEP]/(HS)PD4, 46 UART2_TX/PD5, 47 UART2_RX/PD6, 48 TLI[T1_CH4]/PD7
text: MCU

## STM32F030RC
designator DD?
Value: *
footprint LQFP-64-MSP430F235
pins: 1 VDD, 2 PC13, 3 PC14_OSC32_IN, 4 PC15_OSC32_OUT, 5 PF0_OSC_IN, 6 PF1_OSC_OUT, 7 NRST, 8 PC0, 9 PC1, 10 PC2, 11 PC3, 12 VSSA, 13 VDDA, 14 PA0, 15 PA1, 16 PA2, 17 PA3, 18 VSS, 19 VDD, 20 PA4, 21 PA5, 22 PA6, 23 PA7, 24 PC4, 25 PC5, 26 PB0, 27 PB1, 28 PB2, 29 PB10, 30 PB11, 31 VSS, 32 VDD, 33 PB12, 34 PB13, 35 PB14, 36 PB15, 37 PC6, 38 PC7, 39 PC8, 40 PC9, 41 PA8, 42 PA9, 43 PA10, 44 PA11, 45 PA12, 46 PA13, 47 VSS, 48 VDD, 49 PA14, 50 PA15, 51 PC10, 52 PC11, 53 PC12, 54 PD2, 55 PB3, 56 PB4, 57 PB5, 58 PB6, 59 PB7, 60 BOOT0, 61 PB8, 62 PB9, 63 VSS, 64 VDD